# Altium schematic symbol library Schlib_Xilinx.SchLib: 18 symbols (part 4 of 5)
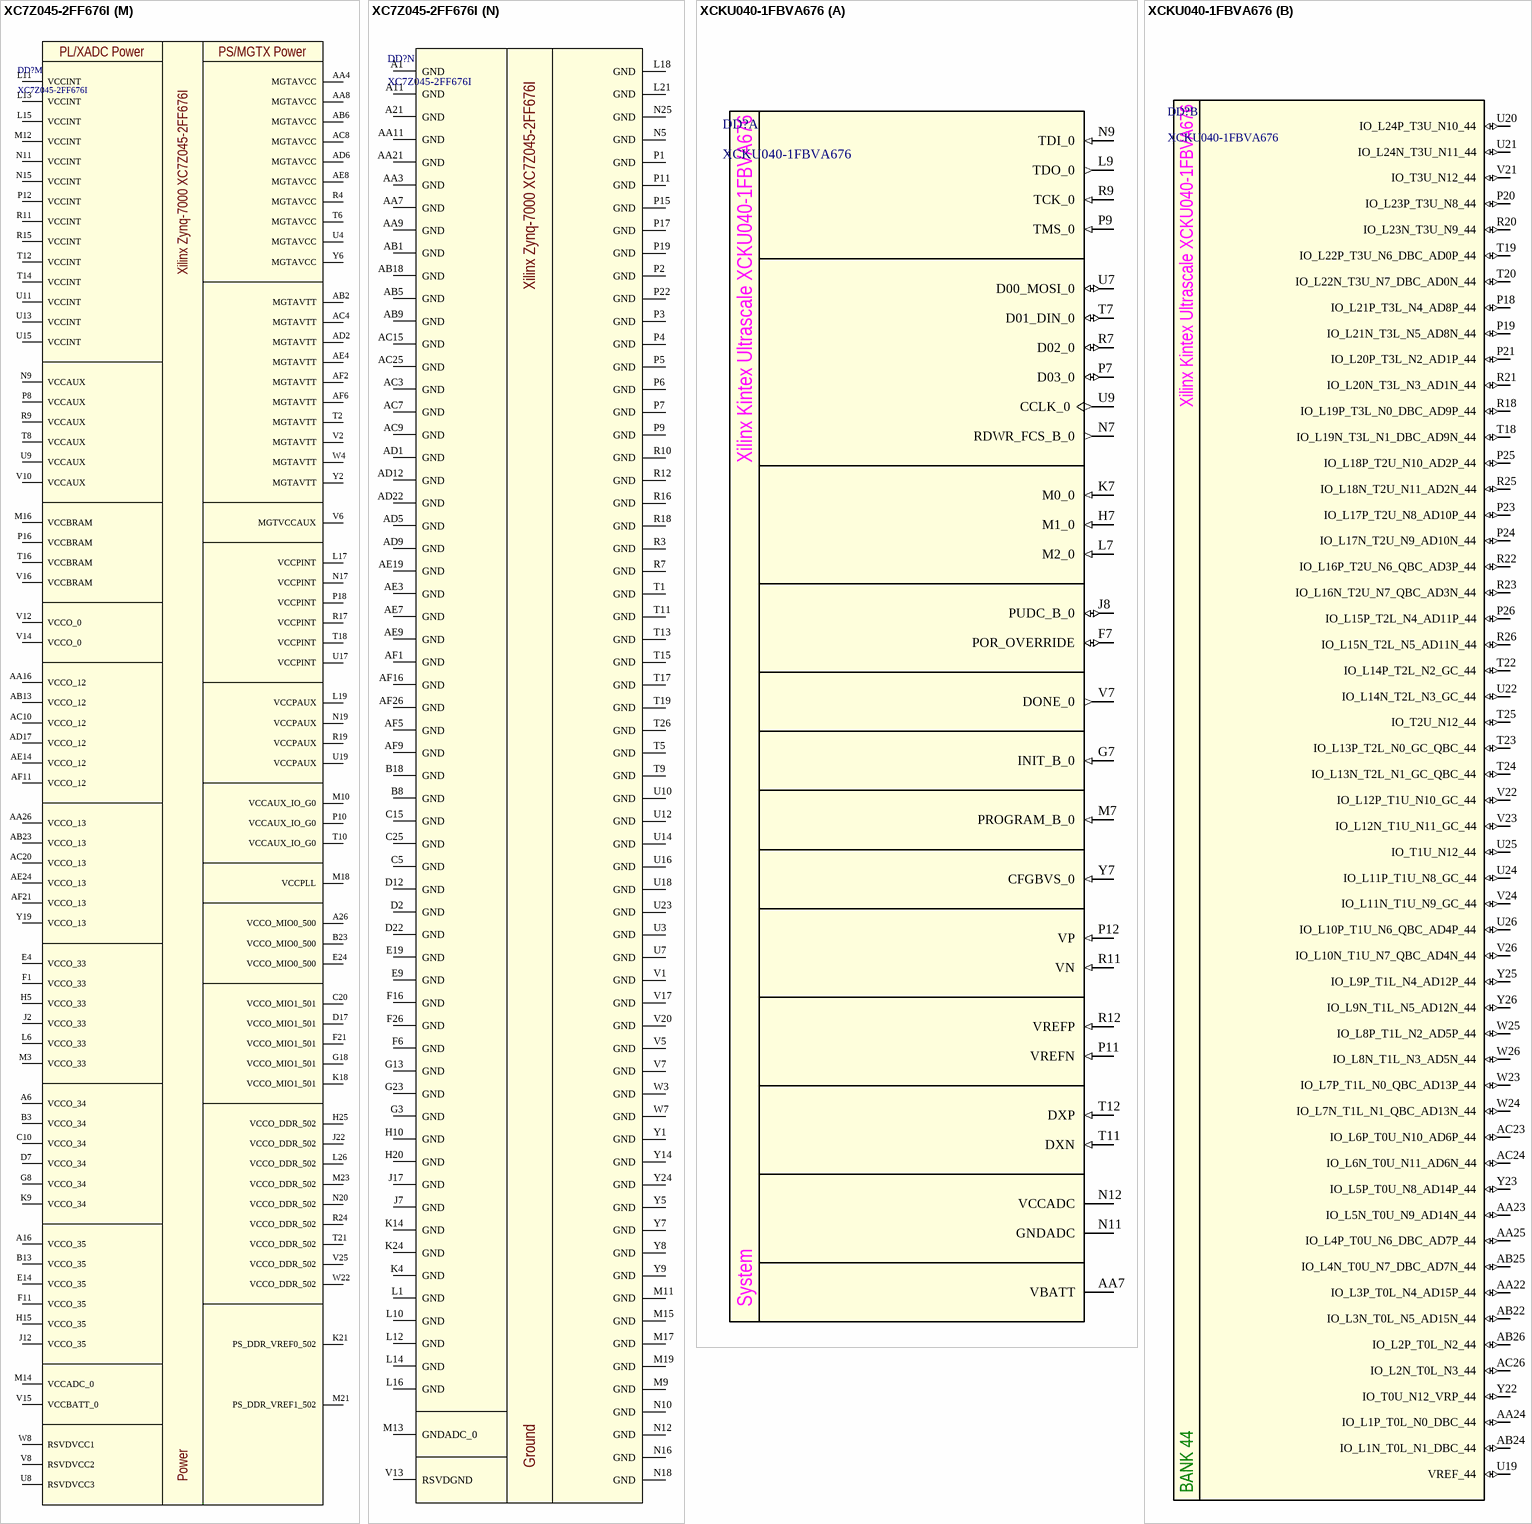
[diagram p60: symbols XC7Z045-2FF676I to XCKU040-1FBVA676]

## XC7Z045-2FF676I
designator DD?
Zynq-7000 Series SoC, Speed Grade 2, Industrial Grade; Manufacturer: Xilinx; Speed Grade: -2; PackageReference: FBG484; Part Number: XC7Z045-2FF676I
footprint FB676 (XC7Z045) (BGA, 676-Leads, Body 27.00x27.00mmx2.54mm, Pitch 1.00mm)
part A pins: N13 VREFN_0 (in), N14 VP_0 (in), P13 VN_0 (in), P14 VREFP_0 (in), R8 INIT_B_0 (in), R13 DXN_0 (in), R14 DXP_0 (in), T7 CFGBVS_0 (in), V9 PROGRAM_B_0 (in), V11 TDI_0 (in), W9 DONE_0 (out), W10 TDO_0 (out), W11 TMS_0 (in), W12 TCK_0 (in)
part B pins: AA10 IO_L3N_T0_DQS_12 (io), AA12 IO_L6N_T0_VREF_12 (io), AA13 IO_L6P_T0_12 (io), AA14 IO_L22N_T3_12 (io), AA15 IO_L22P_T3_12 (io), AA17 IO_L19N_T3_VREF_12 (io), AB10 IO_L4N_T0_12 (io), AB11 IO_L4P_T0_12 (io), AB12 IO_L2P_T0_12 (io), AB14 IO_L14N_T2_SRCC_12 (io), AB15 IO_L14P_T2_SRCC_12 (io), AB16 IO_L20N_T3_12 (io), AB17 IO_L20P_T3_12 (io), AC11 IO_L2N_T0_12 (io), AC12 IO_L11P_T1_SRCC_12 (io), AC13 IO_L12P_T1_MRCC_12 (io), AC14 IO_L13P_T2_MRCC_12 (io), AC16 IO_L21N_T3_DQS_12 (io), AC17 IO_L21P_T3_DQS_12 (io), AD10 IO_L7N_T1_12 (io), AD11 IO_L11N_T1_SRCC_12 (io), AD13 IO_L12N_T1_MRCC_12 (io), AD14 IO_L13N_T2_MRCC_12 (io), AD15 IO_L15N_T2_DQS_12 (io), AD16 IO_L15P_T2_DQS_12 (io), AE10 IO_L7P_T1_12 (io), AE11 IO_L9P_T1_DQS_12 (io), AE12 IO_L8P_T1_12 (io), AE13 IO_L10P_T1_12 (io), AE15 IO_L17N_T2_12 (io), AE16 IO_L17P_T2_12 (io), AE17 IO_L18P_T2_12 (io), AF10 IO_L9N_T1_DQS_12 (io), AF12 IO_L8N_T1_12 (io), AF13 IO_L10N_T1_12 (io), AF14 IO_L16N_T2_12 (io), AF15 IO_L16P_T2_12 (io), AF17 IO_L18N_T2_12 (io), W13 IO_L5P_T0_12 (io), W14 IO_0_12 (io), W15 IO_L24N_T3_12 (io), W16 IO_L24P_T3_12 (io), Y10 IO_L3P_T0_DQS_12 (io), Y11 IO_L1N_T0_12 (io), Y12 IO_L1P_T0_12 (io), Y13 IO_L5N_T0_12 (io), Y15 IO_L23N_T3_12 (io), Y16 IO_L23P_T3_12 (io), Y17 IO_L19P_T3_12 (io)
part C pins: AA18 IO_L24N_T3_13 (io), AA19 IO_L22P_T3_13 (io), AA20 IO_L20P_T3_13 (io), AA22 IO_L10P_T1_13 (io), AA23 IO_L10N_T1_13 (io), AA24 IO_L6P_T0_13 (io), AA25 IO_L1P_T0_13 (io), AB19 IO_L22N_T3_13 (io), AB20 IO_L20N_T3_13 (io), AB21 IO_L9P_T1_DQS_13 (io), AB22 IO_L9N_T1_DQS_13 (io), AB24 IO_L6N_T0_VREF_13 (io), AB25 IO_L1N_T0_13 (io), AB26 IO_L2P_T0_13 (io), AC18 IO_L21P_T3_DQS_13 (io), AC19 IO_L21N_T3_DQS_13 (io), AC21 IO_L14P_T2_SRCC_13 (io), AC22 IO_L14N_T2_SRCC_13 (io), AC23 IO_L12P_T1_MRCC_13 (io), AC24 IO_L12N_T1_MRCC_13 (io), AC26 IO_L2N_T0_13 (io), AD18 IO_L17P_T2_13 (io), AD19 IO_L17N_T2_13 (io), AD20 IO_L13P_T2_MRCC_13 (io), AD21 IO_L13N_T2_MRCC_13 (io), AD23 IO_L11P_T1_SRCC_13 (io), AD24 IO_L11N_T1_SRCC_13 (io), AD25 IO_L4P_T0_13 (io), AD26 IO_L4N_T0_13 (io), AE18 IO_L18P_T2_13 (io), AE20 IO_L16P_T2_13 (io), AE21 IO_L16N_T2_13 (io), AE22 IO_L7P_T1_13 (io), AE23 IO_L8P_T1_13 (io), AE25 IO_L3P_T0_DQS_13 (io), AE26 IO_L3N_T0_DQS_13 (io), AF18 IO_L18N_T2_13 (io), AF19 IO_L15P_T2_DQS_13 (io), AF20 IO_L15N_T2_DQS_13 (io), AF22 IO_L7N_T1_13 (io), AF23 IO_L8N_T1_13 (io), AF24 IO_L5P_T0_13 (io), AF25 IO_L5N_T0_13 (io), V19 IO_0_13 (io), W18 IO_L23P_T3_13 (io), W19 IO_L23N_T3_13 (io), W20 IO_L19P_T3_13 (io), Y18 IO_L24P_T3_13 (io), Y20 IO_L19N_T3_VREF_13 (io)
part D pins: C1 IO_L4N_T0_33 (io), D1 IO_L4P_T0_33 (io), D3 IO_L2N_T0_33 (io), D4 IO_L2P_T0_33 (io), E1 IO_L5N_T0_33 (io), E2 IO_L5P_T0_33 (io), E3 IO_L6N_T0_VREF_33 (io), F2 IO_L3N_T0_DQS_33 (io), F3 IO_L6P_T0_33 (io), F4 IO_L1N_T0_33 (io), G1 IO_L10N_T1_33 (io), G2 IO_L3P_T0_DQS_33 (io), G4 IO_L1P_T0_33 (io), H1 IO_L7N_T1_33 (io), H2 IO_L10P_T1_33 (io), H3 IO_L8N_T1_33 (io), H4 IO_L8P_T1_33 (io), J1 IO_L7P_T1_33 (io), J3 IO_L12N_T1_MRCC_33 (io), J4 IO_L12P_T1_MRCC_33 (io), J5 IO_L20N_T3_33 (io), J6 IO_L22N_T3_33 (io), K1 IO_L9N_T1_DQS_33 (io), K2 IO_L9P_T1_DQS_33 (io), K3 IO_L11N_T1_SRCC_33 (io), K5 IO_L20P_T3_33 (io), K6 IO_L22P_T3_33 (io), K7 IO_L24N_T3_33 (io), K8 IO_L24P_T3_33 (io), L2 IO_L16N_T2_33 (io), L3 IO_L11P_T1_SRCC_33 (io), L4 IO_L14N_T2_SRCC_33 (io), L5 IO_L14P_T2_SRCC_33 (io), L7 IO_L19N_T3_VREF_33 (io), L8 IO_L21N_T3_DQS_33 (io), L9 IO_0_VRN_33 (io), M1 IO_L18N_T2_33 (io), M2 IO_L16P_T2_33 (io), M4 IO_L17N_T2_33 (io), M5 IO_L13N_T2_MRCC_33 (io), M6 IO_L13P_T2_MRCC_33 (io), M7 IO_L19P_T3_33 (io), M8 IO_L21P_T3_DQS_33 (io), N1 IO_L18P_T2_33 (io), N2 IO_L15N_T2_DQS_33 (io), N3 IO_L15P_T2_DQS_33 (io), N4 IO_L17P_T2_33 (io), N6 IO_L23N_T3_33 (io), N7 IO_L23P_T3_33 (io)
part E pins: A2 IO_L24N_T3_34 (io), A3 IO_L22N_T3_34 (io), A4 IO_L22P_T3_34 (io), A5 IO_L21N_T3_DQS_34 (io), A7 IO_L18N_T2_34 (io), A8 IO_L17N_T2_34 (io), A9 IO_L17P_T2_34 (io), A10 IO_L16N_T2_34 (io), B1 IO_L23N_T3_34 (io), B2 IO_L24P_T3_34 (io), B4 IO_L20N_T3_34 (io), B5 IO_L20P_T3_34 (io), B6 IO_L21P_T3_DQS_34 (io), B7 IO_L18P_T2_34 (io), B9 IO_L15N_T2_DQS_34 (io), B10 IO_L16P_T2_34 (io), C2 IO_L23P_T3_34 (io), C3 IO_L19N_T3_VREF_34 (io), C4 IO_L19P_T3_34 (io), C6 IO_L14N_T2_SRCC_34 (io), C7 IO_L13N_T2_MRCC_34 (io), C8 IO_L13P_T2_MRCC_34 (io), C9 IO_L15P_T2_DQS_34 (io), D5 IO_L10N_T1_34 (io), D6 IO_L14P_T2_SRCC_34 (io), D8 IO_L8N_T1_34 (io), D9 IO_L8P_T1_34 (io), E5 IO_L7N_T1_34 (io), E6 IO_L10P_T1_34 (io), E7 IO_L11N_T1_SRCC_34 (io), E8 IO_L9N_T1_DQS_34 (io), F5 IO_L7P_T1_34 (io), F7 IO_L12N_T1_MRCC_34 (io), F8 IO_L11P_T1_SRCC_34 (io), F9 IO_L9P_T1_DQS_34 (io), G5 IO_L2N_T0_34 (io), G6 IO_L2P_T0_34 (io), G7 IO_L12P_T1_MRCC_34 (io), G9 IO_L3N_T0_DQS_34 (io), H6 IO_L4N_T0_34 (io), H7 IO_L4P_T0_34 (io), H8 IO_L6N_T0_VREF_34 (io), H9 IO_L3P_T0_DQS_PUDC_B_34 (io), H11 IO_L1N_T0_34 (io), J8 IO_L6P_T0_34 (io), J9 IO_L5N_T0_34 (io), J10 IO_L5P_T0_34 (io), J11 IO_L1P_T0_34 (io), K11 IO_0_VRN_34 (io)
part F pins: A12 IO_L24N_T3_AD15N_35 (io), A13 IO_L24P_T3_AD15P_35 (io), A14 IO_L21N_T3_DQS_AD14N_35 (io), A15 IO_L21P_T3_DQS_AD14P_35 (io), A17 IO_L18N_T2_AD13N_35 (io), B11 IO_L23N_T3_35 (io), B12 IO_L22N_T3_AD7N_35 (io), B14 IO_L20N_T3_AD6N_35 (io), B15 IO_L17N_T2_AD5N_35 (io), B16 IO_L17P_T2_AD5P_35 (io), B17 IO_L18P_T2_AD13P_35 (io), C11 IO_L23P_T3_35 (io), C12 IO_L22P_T3_AD7P_35 (io), C13 IO_L19N_T3_VREF_35 (io), C14 IO_L20P_T3_AD6P_35 (io), C16 IO_L15N_T2_DQS_AD12N_35 (io), C17 IO_L15P_T2_DQS_AD12P_35 (io), D10 IO_L2N_T0_AD8N_35 (io), D11 IO_L4N_T0_35 (io), D13 IO_L19P_T3_35 (io), D14 IO_L13N_T2_MRCC_35 (io), D15 IO_L13P_T2_MRCC_35 (io), D16 IO_L16N_T2_35 (io), E10 IO_L2P_T0_AD8P_35 (io), E11 IO_L4P_T0_35 (io), E12 IO_L1N_T0_AD0N_35 (io), E13 IO_L6N_T0_VREF_35 (io), E15 IO_L14N_T2_AD4N_SRCC_35 (io), E16 IO_L16P_T2_35 (io), F10 IO_L3N_T0_DQS_AD1N_35 (io), F12 IO_L1P_T0_AD0P_35 (io), F13 IO_L6P_T0_35 (io), F14 IO_L11N_T1_SRCC_35 (io), F15 IO_L14P_T2_AD4P_SRCC_35 (io), G10 IO_L3P_T0_DQS_AD1P_35 (io), G11 IO_L5N_T0_AD9N_35 (io), G12 IO_L5P_T0_AD9P_35 (io), G14 IO_L11P_T1_SRCC_35 (io), G15 IO_L10N_T1_AD11N_35 (io), G16 IO_L10P_T1_AD11P_35 (io), H12 IO_L7N_T1_AD2N_35 (io), H13 IO_L7P_T1_AD2P_35 (io), H14 IO_L12N_T1_MRCC_35 (io), H16 IO_0_VRN_35 (io), J13 IO_L8N_T1_AD10N_35 (io), J14 IO_L12P_T1_MRCC_35 (io), J15 IO_L9N_T1_DQS_AD3N_35 (io), K13 IO_L8P_T1_AD10P_35 (io), K15 IO_L9P_T1_DQS_AD3P_35 (io)
part G pins: AA5 MGTREFCLK1N_111 (in), AA6 MGTREFCLK1P_111 (in), AC1 MGTXTXN3_111 (out), AC2 MGTXTXP3_111 (out), AC5 MGTXRXN2_111 (in), AC6 MGTXRXP2_111 (in), AD3 MGTXRXN3_111 (in), AD4 MGTXRXP3_111 (in), AD7 MGTXRXN0_111 (in), AD8 MGTXRXP0_111 (in), AE1 MGTXTXN2_111 (out), AE2 MGTXTXP2_111 (out), AE5 MGTXRXN1_111 (in), AE6 MGTXRXP1_111 (in), AF3 MGTXTXN1_111 (out), AF4 MGTXTXP1_111 (out), AF7 MGTXTXN0_111 (out), AF8 MGTXTXP0_111 (out), W5 MGTREFCLK0N_111 (in), W6 MGTREFCLK0P_111 (in)
part H pins: AA1 MGTXTXN0_112 (out), AA2 MGTXTXP0_112 (out), AB3 MGTXRXN0_112 (in), AB4 MGTXRXP0_112 (in), AB7 MGTAVTTRCAL_112, AB8 MGTRREF_112 (in), R1 MGTXTXN3_112 (out), R2 MGTXTXP3_112 (out), R5 MGTREFCLK0N_112 (in), R6 MGTREFCLK0P_112 (in), T3 MGTXRXN3_112 (in), T4 MGTXRXP3_112 (in), U1 MGTXTXN2_112 (out), U2 MGTXTXP2_112 (out), U5 MGTREFCLK1N_112 (in), U6 MGTREFCLK1P_112 (in), V3 MGTXRXN2_112 (in), V4 MGTXRXP2_112 (in), W1 MGTXTXN1_112 (out), W2 MGTXTXP1_112 (out), Y3 MGTXRXN1_112 (in), Y4 MGTXRXP1_112 (in)
part I pins: A23 PS_MIO12_500 (io), A24 PS_MIO8_500 (io), A25 PS_MIO10_500 (io), B24 PS_CLK_500 (io), B25 PS_MIO13_500 (io), B26 PS_MIO11_500 (io), C23 PS_POR_B_500 (io), C24 PS_MIO15_500 (io), C26 PS_MIO5_500 (io), D23 PS_MIO14_500 (io), D24 PS_MIO9_500 (io), D25 PS_MIO3_500 (io), D26 PS_MIO1_500 (io), E23 PS_MIO7_500 (io), E25 PS_MIO2_500 (io), E26 PS_MIO0_500 (io), F23 PS_MIO6_500 (io), F24 PS_MIO4_500 (io)
part J pins: A18 PS_MIO49_501 (io), A19 PS_MIO53_501 (io), A20 PS_MIO52_501 (io), A22 PS_SRST_B_501 (io), B19 PS_MIO47_501 (io), B20 PS_MIO51_501 (io), B21 PS_MIO48_501 (io), B22 PS_MIO50_501 (io), C18 PS_MIO45_501 (io), C19 PS_MIO41_501 (io), C21 PS_MIO39_501 (io), C22 PS_MIO40_501 (io), D18 PS_MIO43_501 (io), D19 PS_MIO35_501 (io), D20 PS_MIO37_501 (io), D21 PS_MIO38_501 (io), E17 PS_MIO46_501 (io), E18 PS_MIO44_501 (io), E20 PS_MIO29_501 (io), E21 PS_MIO31_501 (io), E22 PS_MIO33_501 (io), F17 PS_MIO42_501 (io), F18 PS_MIO27_501 (io), F19 PS_MIO25_501 (io), F20 PS_MIO23_501 (io), F22 PS_MIO21_501 (io), G17 PS_MIO17_501 (io), G19 PS_MIO19_501 (io), G20 PS_MIO18_501 (io), G21 PS_MIO16_501 (io), G22 PS_MIO22_501 (io), H17 PS_MIO26_501 (io), H18 PS_MIO_VREF_501 (io), H19 PS_MIO20_501 (io), J16 PS_MIO34_501 (io), J18 PS_MIO28_501 (io), J19 PS_MIO24_501 (io), K16 PS_MIO36_501 (io), K17 PS_MIO32_501 (io), K19 PS_MIO30_501 (io)
part K pins: F25 PS_DDR_DQ1_502 (io), G25 PS_DDR_DQS_N0_502 (io), G26 PS_DDR_DQ3_502 (io), H23 PS_DDR_DQ5_502 (io), H24 PS_DDR_DQS_P0_502 (io), H26 PS_DDR_DQ4_502 (io), J23 PS_DDR_DQ7_502 (io), J24 PS_DDR_DQ6_502 (io), J25 PS_DDR_DQ2_502 (io), J26 PS_DDR_DQ0_502 (io), K23 PS_DDR_DQ11_502 (io), K26 PS_DDR_DQ8_502 (io), L23 PS_DDR_DQ9_502 (io), L24 PS_DDR_DQS_P1_502 (io), L25 PS_DDR_DQS_N1_502 (io), M24 PS_DDR_DQ14_502 (io), M25 PS_DDR_DQ12_502 (io), M26 PS_DDR_DQ10_502 (io), N23 PS_DDR_DQ15_502 (io), N24 PS_DDR_DQ13_502 (io), N26 PS_DDR_DQ18_502 (io), P23 PS_DDR_DQ19_502 (io), P24 PS_DDR_DQ17_502 (io), P25 PS_DDR_DQS_P2_502 (io), R23 PS_DDR_DQ23_502 (io), R25 PS_DDR_DQS_N2_502 (io), R26 PS_DDR_DQ16_502 (io), T23 PS_DDR_DQ22_502 (io), T24 PS_DDR_DQ20_502 (io), T25 PS_DDR_DQ21_502 (io), U24 PS_DDR_DQ26_502 (io), U25 PS_DDR_DQ27_502 (io), U26 PS_DDR_DQ25_502 (io), V24 PS_DDR_DQ24_502 (io), W23 PS_DDR_DQ31_502 (io), W24 PS_DDR_DQS_P3_502 (io), W25 PS_DDR_DQS_N3_502 (io), W26 PS_DDR_DQ28_502 (io), Y25 PS_DDR_DQ29_502 (io), Y26 PS_DDR_DQ30_502 (io)
part L pins: G24 PS_DDR_DM0_502 (io), H21 PS_DDR_A11_502 (io), H22 PS_DDR_DRST_B_502 (io), J20 PS_DDR_A13_502 (io), J21 PS_DDR_A7_502 (io), K20 PS_DDR_A1_502 (io), K22 PS_DDR_A0_502 (io), K25 PS_DDR_DM1_502 (io), L20 PS_DDR_A6_502 (io), L22 PS_DDR_A3_502 (io), M20 PS_DDR_A4_502 (io), M22 PS_DDR_A10_502 (io), N21 PS_DDR_A2_502 (io), N22 PS_DDR_A5_502 (io), P20 PS_DDR_A12_502 (io), P21 PS_DDR_CKN_502 (io), P26 PS_DDR_DM2_502 (io), R20 PS_DDR_A14_502 (io), R21 PS_DDR_CKP_502 (io), R22 PS_DDR_BA2_502 (io), T20 PS_DDR_A8_502 (io), T22 PS_DDR_BA1_502 (io), U20 PS_DDR_A9_502 (io), U21 PS_DDR_CKE_502 (io), U22 PS_DDR_BA0_502 (io), V21 PS_DDR_VRN_502 (io), V22 PS_DDR_WE_B_502 (io), V23 PS_DDR_RAS_B_502 (io), V26 PS_DDR_DM3_502 (io), W21 PS_DDR_VRP_502 (io), Y21 PS_DDR_CS_B_502 (io), Y22 PS_DDR_ODT_502 (io), Y23 PS_DDR_CAS_B_502 (io)
part M pins: A6 VCCO_34 (power), A16 VCCO_35 (power), A26 VCCO_MIO0_500 (power), AA4 MGTAVCC (power), AA8 MGTAVCC (power), AA16 VCCO_12 (power), AA26 VCCO_13 (power), AB2 MGTAVTT (power), AB6 MGTAVCC (power), AB13 VCCO_12 (power), AB23 VCCO_13 (power), AC4 MGTAVTT (power), AC8 MGTAVCC (power), AC10 VCCO_12 (power), AC20 VCCO_13 (power), AD2 MGTAVTT (power), AD6 MGTAVCC (power), AD17 VCCO_12 (power), AE4 MGTAVTT (power), AE8 MGTAVCC (power), AE14 VCCO_12 (power), AE24 VCCO_13 (power), AF2 MGTAVTT (power), AF6 MGTAVTT (power), AF11 VCCO_12 (power), AF21 VCCO_13 (power), B3 VCCO_34 (power), B13 VCCO_35 (power), B23 VCCO_MIO0_500 (power), C10 VCCO_34 (power), C20 VCCO_MIO1_501 (power), D7 VCCO_34 (power), D17 VCCO_MIO1_501 (power), E4 VCCO_33 (power), E14 VCCO_35 (power), E24 VCCO_MIO0_500 (power), F1 VCCO_33 (power), F11 VCCO_35 (power), F21 VCCO_MIO1_501 (power), G8 VCCO_34 (power), G18 VCCO_MIO1_501 (power), H5 VCCO_33 (power), H15 VCCO_35 (power), H25 VCCO_DDR_502 (power), J2 VCCO_33 (power), J12 VCCO_35 (power), J22 VCCO_DDR_502 (power), K9 VCCO_34 (power), K18 VCCO_MIO1_501 (power), K21 PS_DDR_VREF0_502 (power), L6 VCCO_33 (power), L11 VCCINT (power), L13 VCCINT (power), L15 VCCINT (power), L17 VCCPINT (power), L19 VCCPAUX (power), L26 VCCO_DDR_502 (power), M3 VCCO_33 (power), M10 VCCAUX_IO_G0 (power), M12 VCCINT (power), M14 VCCADC_0 (power), M16 VCCBRAM (power), M18 VCCPLL (power), M21 PS_DDR_VREF1_502 (power), M23 VCCO_DDR_502 (power), N9 VCCAUX (power), N11 VCCINT (power), N15 VCCINT (power), N17 VCCPINT (power), N19 VCCPAUX (power), N20 VCCO_DDR_502 (power), P8 VCCAUX (power), P10 VCCAUX_IO_G0 (power), P12 VCCINT (power), P16 VCCBRAM (power), P18 VCCPINT (power), R4 MGTAVCC (power), R9 VCCAUX (power), R11 VCCINT (power), R15 VCCINT (power), R17 VCCPINT (power), R19 VCCPAUX (power), R24 VCCO_DDR_502 (power), T2 MGTAVTT (power), T6 MGTAVCC (power), T8 VCCAUX (power), T10 VCCAUX_IO_G0 (power), T12 VCCINT (power), T14 VCCINT (power), T16 VCCBRAM (power), T18 VCCPINT (power), T21 VCCO_DDR_502 (power), U4 MGTAVCC (power), U8 RSVDVCC3 (power), U9 VCCAUX (power), U11 VCCINT (power), U13 VCCINT (power), U15 VCCINT (power), U17 VCCPINT (power), U19 VCCPAUX (power), V2 MGTAVTT (power), V6 MGTVCCAUX (power), V8 RSVDVCC2 (power), V10 VCCAUX (power), V12 VCCO_0 (power), V14 VCCO_0 (power), V15 VCCBATT_0 (power), V16 VCCBRAM (power), V25 VCCO_DDR_502 (power), W4 MGTAVTT (power), W8 RSVDVCC1 (power), W22 VCCO_DDR_502 (power), Y2 MGTAVTT (power), Y6 MGTAVCC (power), Y19 VCCO_13 (power)
part N pins: A1 GND (power), A11 GND (power), A21 GND (power), AA3 GND (power), AA7 GND (power), AA9 GND (power), AA11 GND (power), AA21 GND (power), AB1 GND (power), AB5 GND (power), AB9 GND (power), AB18 GND (power), AC3 GND (power), AC7 GND (power), AC9 GND (power), AC15 GND (power), AC25 GND (power), AD1 GND (power), AD5 GND (power), AD9 GND (power), AD12 GND (power), AD22 GND (power), AE3 GND (power), AE7 GND (power), AE9 GND (power), AE19 GND (power), AF1 GND (power), AF5 GND (power), AF9 GND (power), AF16 GND (power), AF26 GND (power), B8 GND (power), B18 GND (power), C5 GND (power), C15 GND (power), C25 GND (power), D2 GND (power), D12 GND (power), D22 GND (power), E9 GND (power), E19 GND (power), F6 GND (power), F16 GND (power), F26 GND (power), G3 GND (power), G13 GND (power), G23 GND (power), H10 GND (power), H20 GND (power), J7 GND (power), J17 GND (power), K4 GND (power), K14 GND (power), K24 GND (power), L1 GND (power), L10 GND (power), L12 GND (power), L14 GND (power), L16 GND (power), L18 GND (power), L21 GND (power), M9 GND (power), M11 GND (power), M13 GNDADC_0 (power), M15 GND (power), M17 GND (power), M19 GND (power), N5 GND (power), N10 GND (power), N12 GND (power), N16 GND (power), N18 GND (power), N25 GND (power), P1 GND (power), P2 GND (power), P3 GND (power), P4 GND (power), P5 GND (power), P6 GND (power), P7 GND (power), P9 GND (power), P11 GND (power), P15 GND (power), P17 GND (power), P19 GND (power), P22 GND (power), R3 GND (power), R7 GND (power), R10 GND (power), R12 GND (power), R16 GND (power), R18 GND (power), T1 GND (power), T5 GND (power), T9 GND (power), T11 GND (power), T13 GND (power), T15 GND (power), T17 GND (power), T19 GND (power), T26 GND (power), U3 GND (power), U7 GND (power), U10 GND (power), U12 GND (power), U14 GND (power), U16 GND (power), U18 GND (power), U23 GND (power), V1 GND (power), V5 GND (power), V7 GND (power), V13 RSVDGND (power), V17 GND (power), V20 GND (power), W3 GND (power), W7 GND (power), Y1 GND (power), Y5 GND (power), Y7 GND (power), Y8 GND (power), Y9 GND (power), Y14 GND (power), Y24 GND (power)
part A text: Xilinx Zynq-7000 XC7Z045-2FF676I; BANK 0
part B text: Xilinx Zynq-7000 XC7Z045-2FF676I; BANK 12
part C text: Xilinx Zynq-7000 XC7Z045-2FF676I; BANK 13
part D text: Xilinx Zynq-7000 XC7Z045-2FF676I; BANK 33
part E text: Xilinx Zynq-7000 XC7Z045-2FF676I; BANK 34
part F text: Xilinx Zynq-7000 XC7Z045-2FF676I; BANK 35
part G text: Xilinx Zynq-7000 XC7Z045-2FF676I; BANK 111
part H text: Xilinx Zynq-7000 XC7Z045-2FF676I; BANK 112
part I text: Xilinx Zynq-7000 XC7Z045-2FF676I; BANK 500
part J text: Xilinx Zynq-7000 XC7Z045-2FF676I; BANK 501
part K text: Xilinx Zynq-7000 XC7Z045-2FF676I; BANK 502
part L text: Xilinx Zynq-7000 XC7Z045-2FF676I; BANK 502
part M text: PL/XADC Power; PS/MGTX Power; Xilinx Zynq-7000 XC7Z045-2FF676I; Power
part N text: Xilinx Zynq-7000 XC7Z045-2FF676I; Ground

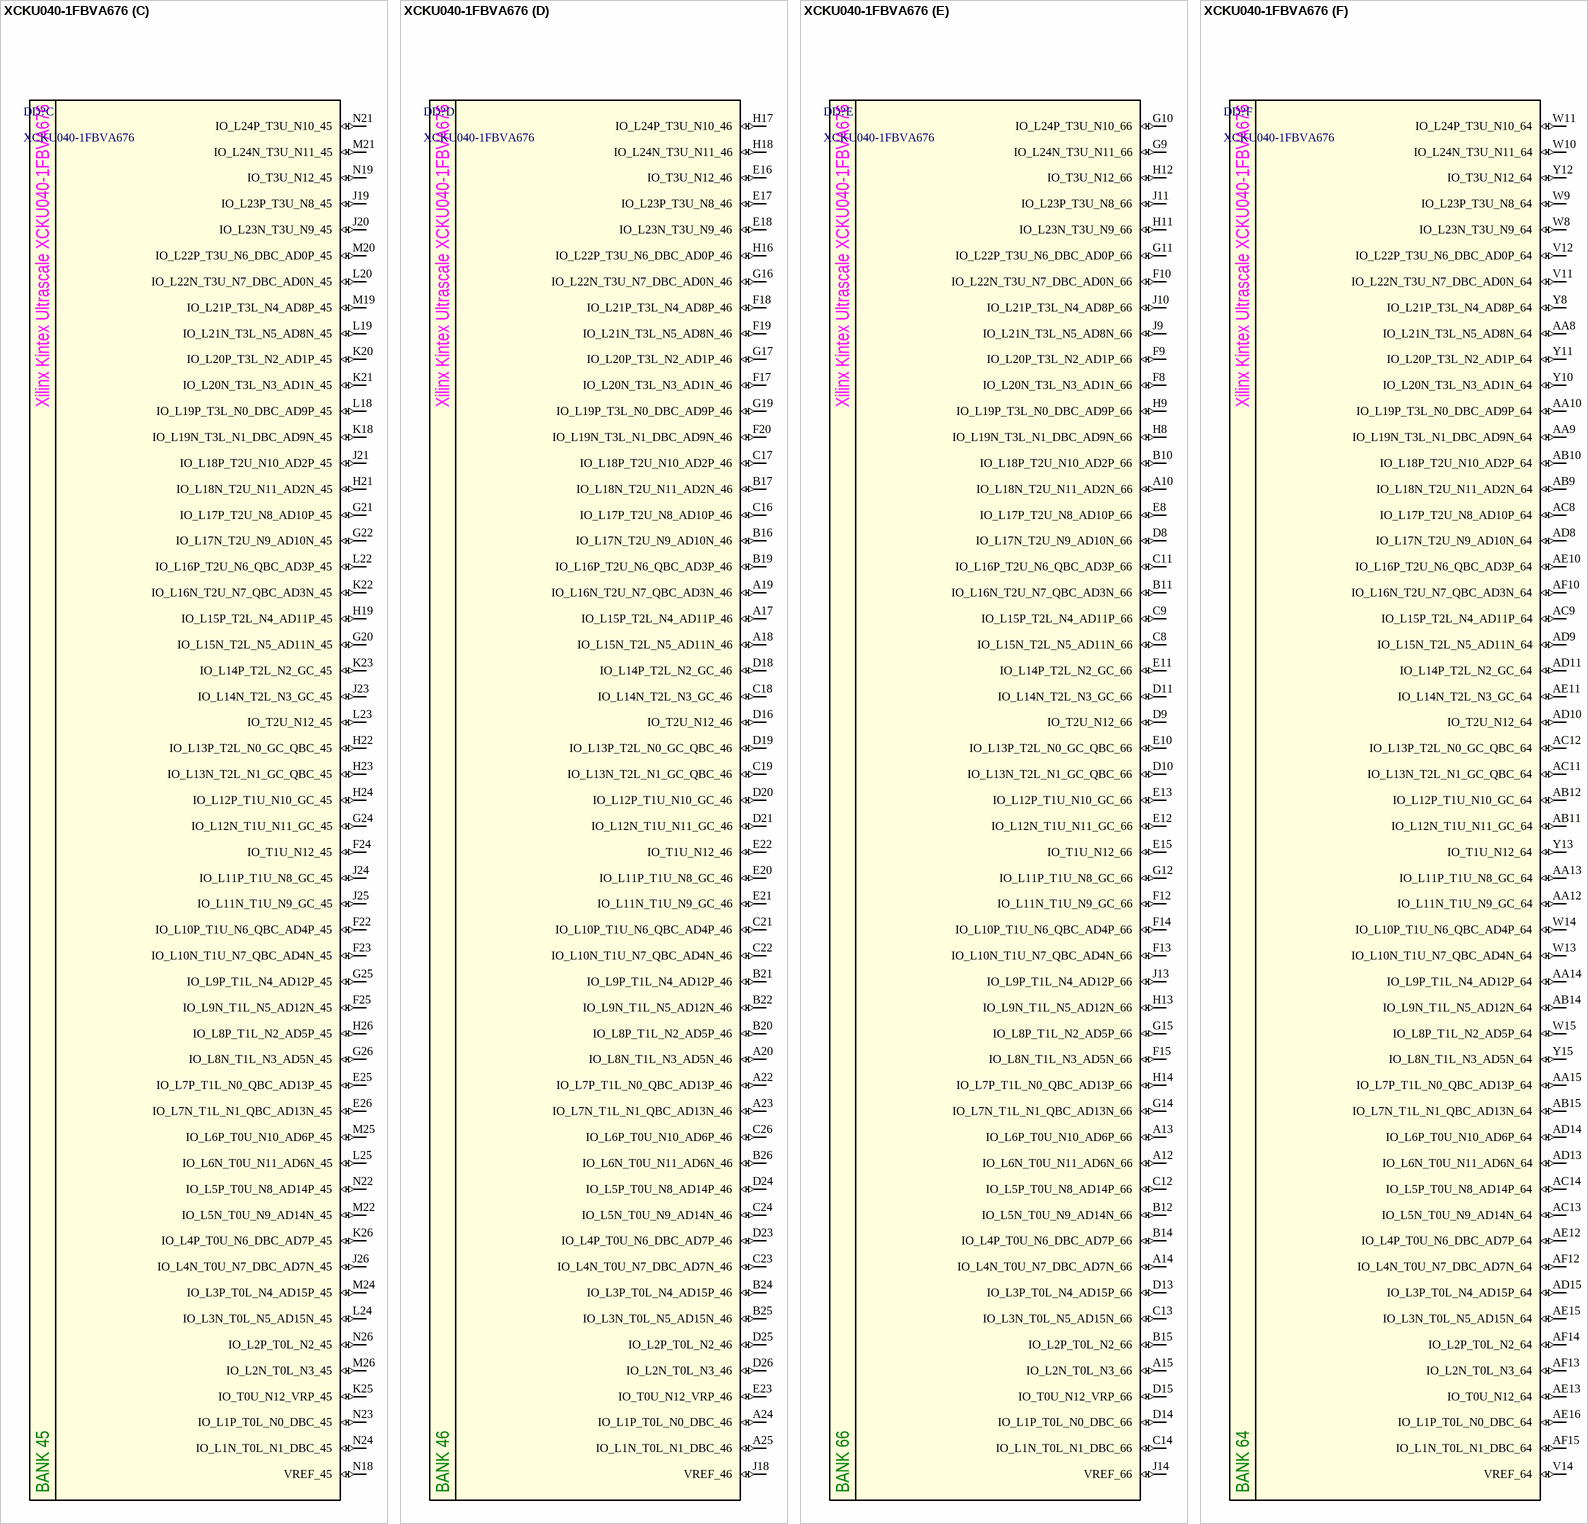
[diagram p47: symbol XCKU040-1FBVA676]

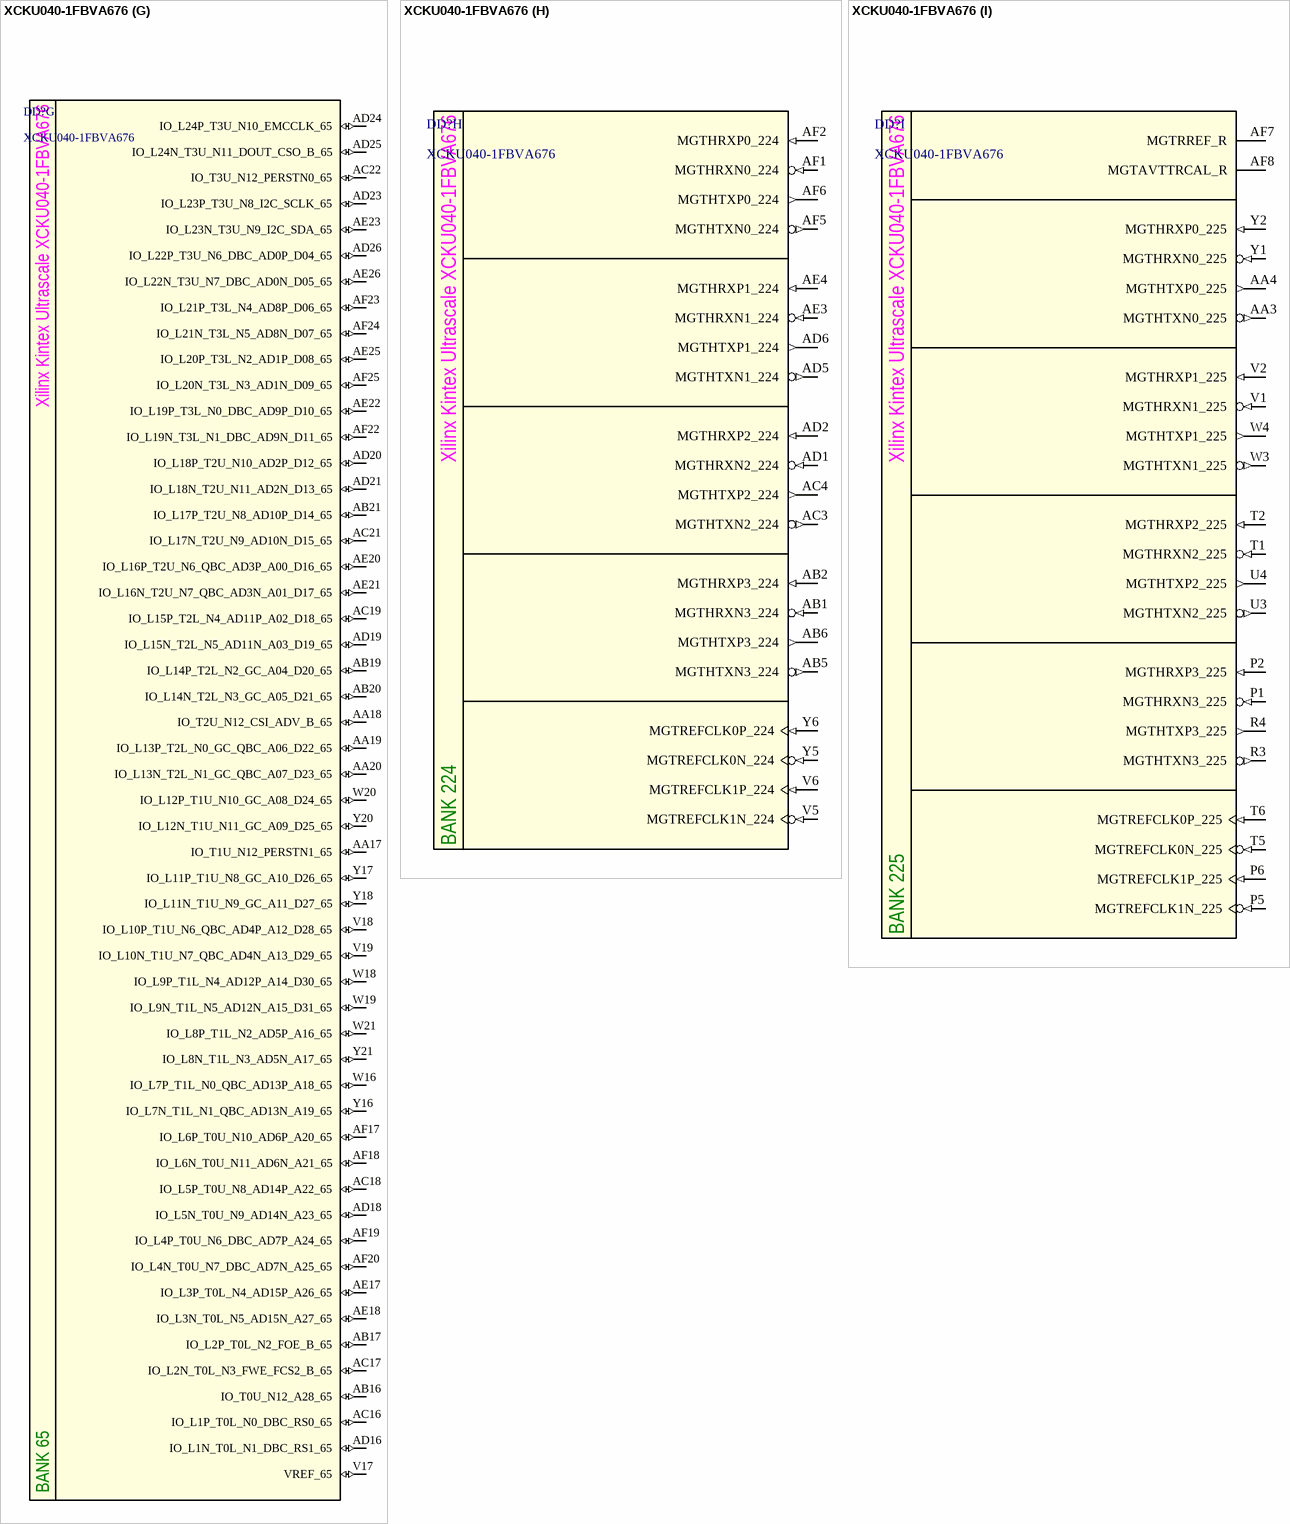
[diagram p48: symbol XCKU040-1FBVA676]

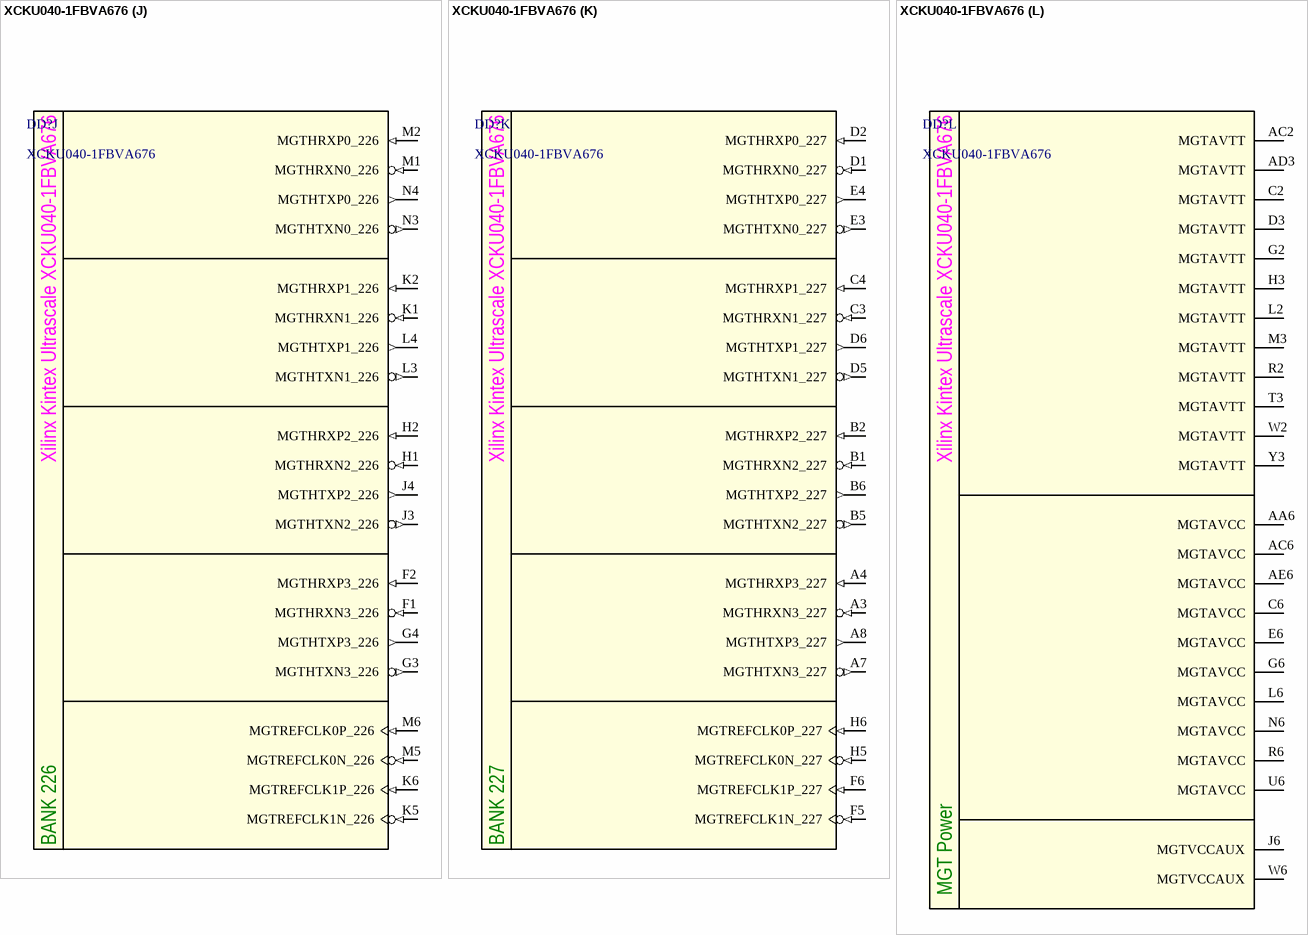
[diagram p49: symbol XCKU040-1FBVA676]

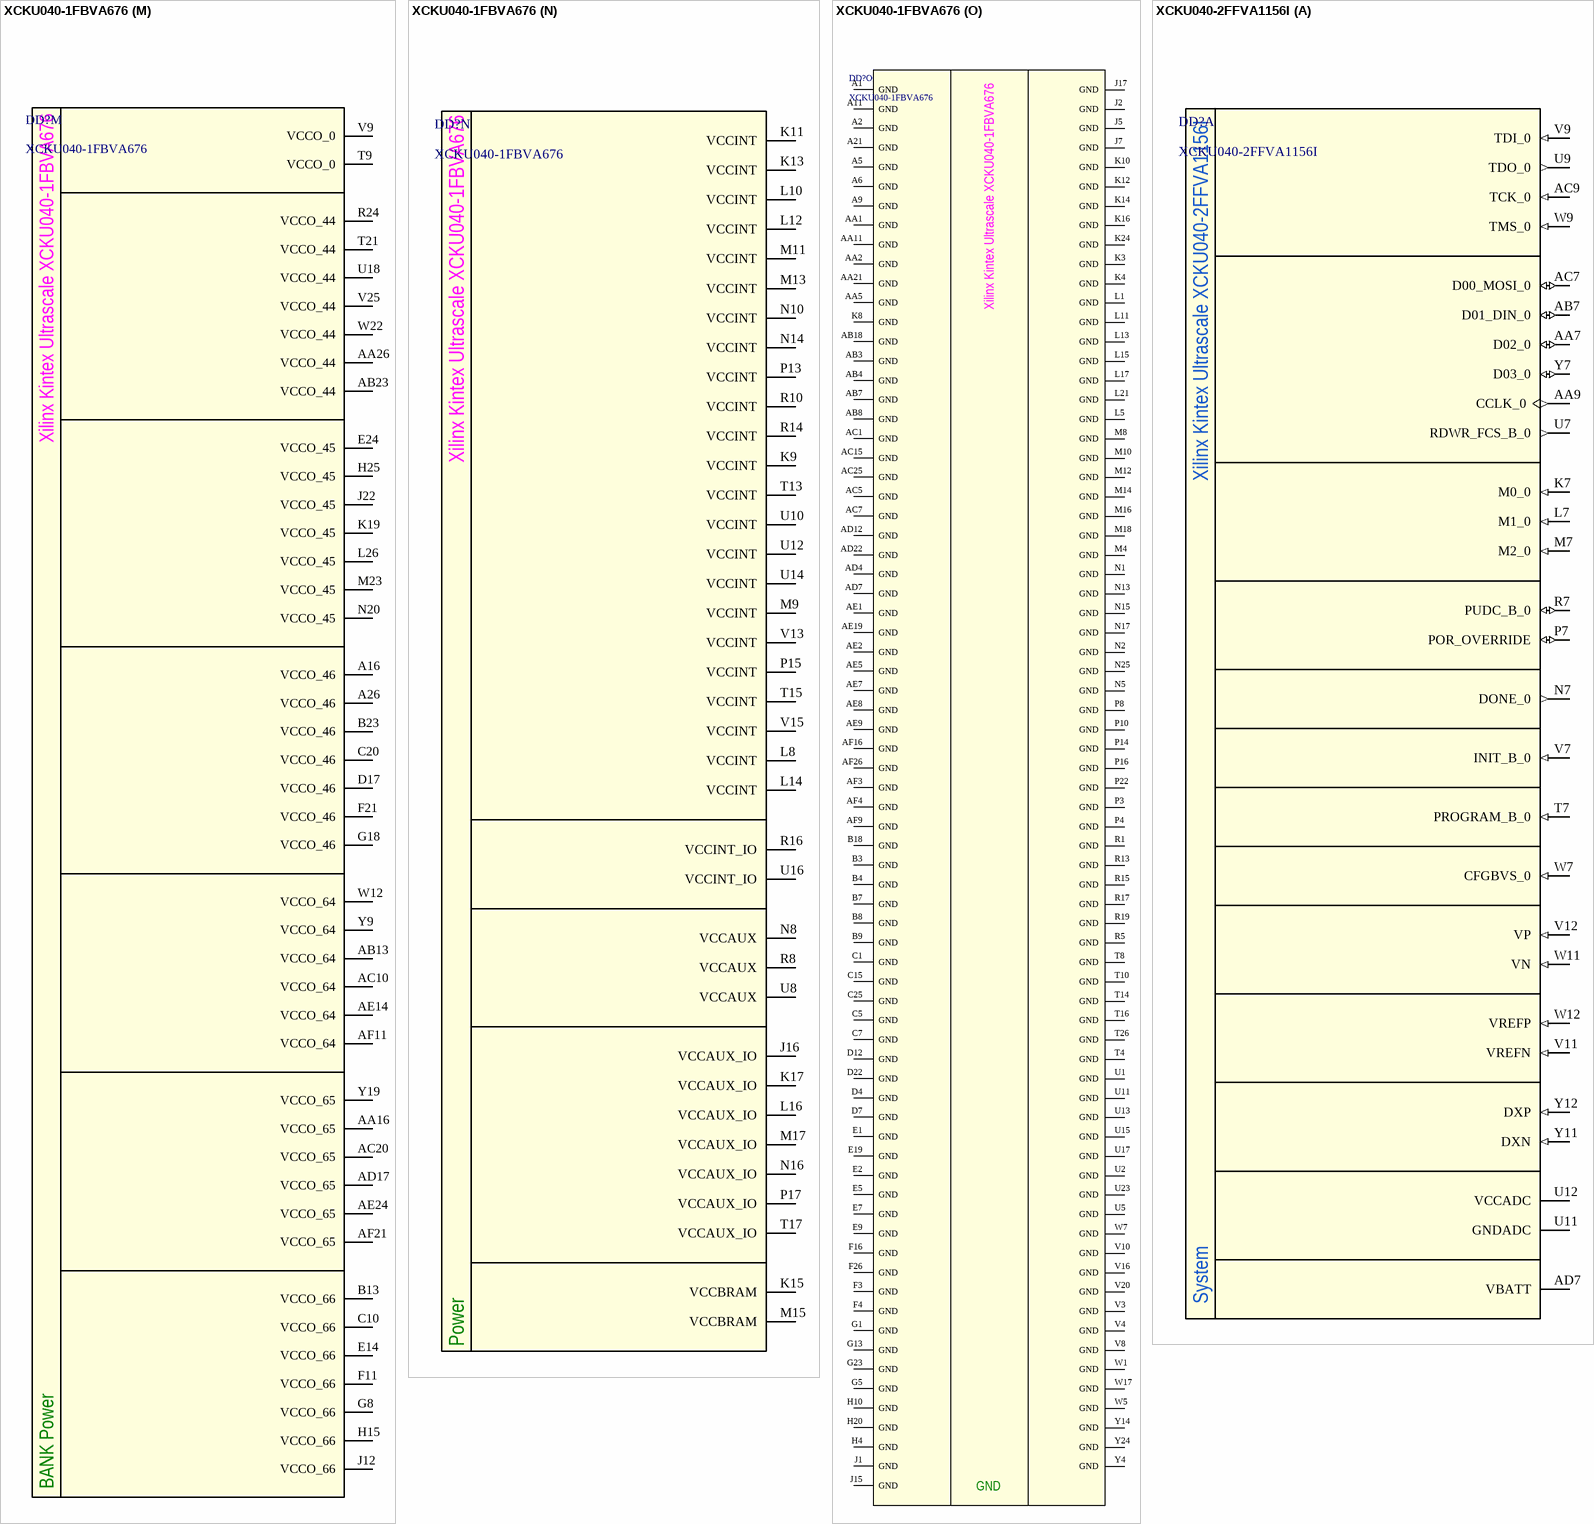
[diagram p50: symbols XCKU040-1FBVA676 to XCKU040-2FFVA1156I]

## XCKU040-1FBVA676
designator DD?
Kintex Ultrascale FPGA, 328 User I/Os, 676-Ball BGA, Speed Grade 1, Industrial Grade, Pb-Free; Manufacturer: Xilinx; Part Number: XCKU040-1FBVA676; ComponentLink1Description: Datasheet; ComponentLink1URL: https://www.xilinx.com/content/dam/xilinx/support/documents/data_sheets/ds890-ultrascale-overview.pdf; ComponentLink2Description: Package Specification; ComponentLink2URL: https://docs.xilinx.com/v/u/en-US/ug575-ultrascale-pkg-pinout
footprint FBVA676 (XCKU040) (BGA, 676-Leads, Body 27.00x27.00mmx2.54mm, Pitch 1.00mm)
part A pins: AA7 VBATT (power), F7 POR_OVERRIDE (io), G7 INIT_B_0 (in), H7 M1_0 (in), J8 PUDC_B_0 (io), K7 M0_0 (in), L7 M2_0 (in), L9 TDO_0 (out), M7 PROGRAM_B_0 (in), N7 RDWR_FCS_B_0 (out), N9 TDI_0 (in), N11 GNDADC (power), N12 VCCADC (power), P7 D03_0 (io), P9 TMS_0 (in), P11 VREFN (in), P12 VP (in), R7 D02_0 (io), R9 TCK_0 (in), R11 VN (in), R12 VREFP (in), T7 D01_DIN_0 (io), T11 DXN (in), T12 DXP (in), U7 D00_MOSI_0 (io), U9 CCLK_0 (out), V7 DONE_0 (out), Y7 CFGBVS_0 (in)
part B pins: AA22 IO_L3P_T0L_N4_AD15P_44 (io), AA23 IO_L5N_T0U_N9_AD14N_44 (io), AA24 IO_L1P_T0L_N0_DBC_44 (io), AA25 IO_L4P_T0U_N6_DBC_AD7P_44 (io), AB22 IO_L3N_T0L_N5_AD15N_44 (io), AB24 IO_L1N_T0L_N1_DBC_44 (io), AB25 IO_L4N_T0U_N7_DBC_AD7N_44 (io), AB26 IO_L2P_T0L_N2_44 (io), AC23 IO_L6P_T0U_N10_AD6P_44 (io), AC24 IO_L6N_T0U_N11_AD6N_44 (io), AC26 IO_L2N_T0L_N3_44 (io), P18 IO_L21P_T3L_N4_AD8P_44 (io), P19 IO_L21N_T3L_N5_AD8N_44 (io), P20 IO_L23P_T3U_N8_44 (io), P21 IO_L20P_T3L_N2_AD1P_44 (io), P23 IO_L17P_T2U_N8_AD10P_44 (io), P24 IO_L17N_T2U_N9_AD10N_44 (io), P25 IO_L18P_T2U_N10_AD2P_44 (io), P26 IO_L15P_T2L_N4_AD11P_44 (io), R18 IO_L19P_T3L_N0_DBC_AD9P_44 (io), R20 IO_L23N_T3U_N9_44 (io), R21 IO_L20N_T3L_N3_AD1N_44 (io), R22 IO_L16P_T2U_N6_QBC_AD3P_44 (io), R23 IO_L16N_T2U_N7_QBC_AD3N_44 (io), R25 IO_L18N_T2U_N11_AD2N_44 (io), R26 IO_L15N_T2L_N5_AD11N_44 (io), T18 IO_L19N_T3L_N1_DBC_AD9N_44 (io), T19 IO_L22P_T3U_N6_DBC_AD0P_44 (io), T20 IO_L22N_T3U_N7_DBC_AD0N_44 (io), T22 IO_L14P_T2L_N2_GC_44 (io), T23 IO_L13P_T2L_N0_GC_QBC_44 (io), T24 IO_L13N_T2L_N1_GC_QBC_44 (io), T25 IO_T2U_N12_44 (io), U19 VREF_44 (io), U20 IO_L24P_T3U_N10_44 (io), U21 IO_L24N_T3U_N11_44 (io), U22 IO_L14N_T2L_N3_GC_44 (io), U24 IO_L11P_T1U_N8_GC_44 (io), U25 IO_T1U_N12_44 (io), U26 IO_L10P_T1U_N6_QBC_AD4P_44 (io), V21 IO_T3U_N12_44 (io), V22 IO_L12P_T1U_N10_GC_44 (io), V23 IO_L12N_T1U_N11_GC_44 (io), V24 IO_L11N_T1U_N9_GC_44 (io), V26 IO_L10N_T1U_N7_QBC_AD4N_44 (io), W23 IO_L7P_T1L_N0_QBC_AD13P_44 (io), W24 IO_L7N_T1L_N1_QBC_AD13N_44 (io), W25 IO_L8P_T1L_N2_AD5P_44 (io), W26 IO_L8N_T1L_N3_AD5N_44 (io), Y22 IO_T0U_N12_VRP_44 (io), Y23 IO_L5P_T0U_N8_AD14P_44 (io), Y25 IO_L9P_T1L_N4_AD12P_44 (io), Y26 IO_L9N_T1L_N5_AD12N_44 (io)
part C pins: E25 IO_L7P_T1L_N0_QBC_AD13P_45 (io), E26 IO_L7N_T1L_N1_QBC_AD13N_45 (io), F22 IO_L10P_T1U_N6_QBC_AD4P_45 (io), F23 IO_L10N_T1U_N7_QBC_AD4N_45 (io), F24 IO_T1U_N12_45 (io), F25 IO_L9N_T1L_N5_AD12N_45 (io), G20 IO_L15N_T2L_N5_AD11N_45 (io), G21 IO_L17P_T2U_N8_AD10P_45 (io), G22 IO_L17N_T2U_N9_AD10N_45 (io), G24 IO_L12N_T1U_N11_GC_45 (io), G25 IO_L9P_T1L_N4_AD12P_45 (io), G26 IO_L8N_T1L_N3_AD5N_45 (io), H19 IO_L15P_T2L_N4_AD11P_45 (io), H21 IO_L18N_T2U_N11_AD2N_45 (io), H22 IO_L13P_T2L_N0_GC_QBC_45 (io), H23 IO_L13N_T2L_N1_GC_QBC_45 (io), H24 IO_L12P_T1U_N10_GC_45 (io), H26 IO_L8P_T1L_N2_AD5P_45 (io), J19 IO_L23P_T3U_N8_45 (io), J20 IO_L23N_T3U_N9_45 (io), J21 IO_L18P_T2U_N10_AD2P_45 (io), J23 IO_L14N_T2L_N3_GC_45 (io), J24 IO_L11P_T1U_N8_GC_45 (io), J25 IO_L11N_T1U_N9_GC_45 (io), J26 IO_L4N_T0U_N7_DBC_AD7N_45 (io), K18 IO_L19N_T3L_N1_DBC_AD9N_45 (io), K20 IO_L20P_T3L_N2_AD1P_45 (io), K21 IO_L20N_T3L_N3_AD1N_45 (io), K22 IO_L16N_T2U_N7_QBC_AD3N_45 (io), K23 IO_L14P_T2L_N2_GC_45 (io), K25 IO_T0U_N12_VRP_45 (io), K26 IO_L4P_T0U_N6_DBC_AD7P_45 (io), L18 IO_L19P_T3L_N0_DBC_AD9P_45 (io), L19 IO_L21N_T3L_N5_AD8N_45 (io), L20 IO_L22N_T3U_N7_DBC_AD0N_45 (io), L22 IO_L16P_T2U_N6_QBC_AD3P_45 (io), L23 IO_T2U_N12_45 (io), L24 IO_L3N_T0L_N5_AD15N_45 (io), L25 IO_L6N_T0U_N11_AD6N_45 (io), M19 IO_L21P_T3L_N4_AD8P_45 (io), M20 IO_L22P_T3U_N6_DBC_AD0P_45 (io), M21 IO_L24N_T3U_N11_45 (io), M22 IO_L5N_T0U_N9_AD14N_45 (io), M24 IO_L3P_T0L_N4_AD15P_45 (io), M25 IO_L6P_T0U_N10_AD6P_45 (io), M26 IO_L2N_T0L_N3_45 (io), N18 VREF_45 (io), N19 IO_T3U_N12_45 (io), N21 IO_L24P_T3U_N10_45 (io), N22 IO_L5P_T0U_N8_AD14P_45 (io), N23 IO_L1P_T0L_N0_DBC_45 (io), N24 IO_L1N_T0L_N1_DBC_45 (io), N26 IO_L2P_T0L_N2_45 (io)
part D pins: A17 IO_L15P_T2L_N4_AD11P_46 (io), A18 IO_L15N_T2L_N5_AD11N_46 (io), A19 IO_L16N_T2U_N7_QBC_AD3N_46 (io), A20 IO_L8N_T1L_N3_AD5N_46 (io), A22 IO_L7P_T1L_N0_QBC_AD13P_46 (io), A23 IO_L7N_T1L_N1_QBC_AD13N_46 (io), A24 IO_L1P_T0L_N0_DBC_46 (io), A25 IO_L1N_T0L_N1_DBC_46 (io), B16 IO_L17N_T2U_N9_AD10N_46 (io), B17 IO_L18N_T2U_N11_AD2N_46 (io), B19 IO_L16P_T2U_N6_QBC_AD3P_46 (io), B20 IO_L8P_T1L_N2_AD5P_46 (io), B21 IO_L9P_T1L_N4_AD12P_46 (io), B22 IO_L9N_T1L_N5_AD12N_46 (io), B24 IO_L3P_T0L_N4_AD15P_46 (io), B25 IO_L3N_T0L_N5_AD15N_46 (io), B26 IO_L6N_T0U_N11_AD6N_46 (io), C16 IO_L17P_T2U_N8_AD10P_46 (io), C17 IO_L18P_T2U_N10_AD2P_46 (io), C18 IO_L14N_T2L_N3_GC_46 (io), C19 IO_L13N_T2L_N1_GC_QBC_46 (io), C21 IO_L10P_T1U_N6_QBC_AD4P_46 (io), C22 IO_L10N_T1U_N7_QBC_AD4N_46 (io), C23 IO_L4N_T0U_N7_DBC_AD7N_46 (io), C24 IO_L5N_T0U_N9_AD14N_46 (io), C26 IO_L6P_T0U_N10_AD6P_46 (io), D16 IO_T2U_N12_46 (io), D18 IO_L14P_T2L_N2_GC_46 (io), D19 IO_L13P_T2L_N0_GC_QBC_46 (io), D20 IO_L12P_T1U_N10_GC_46 (io), D21 IO_L12N_T1U_N11_GC_46 (io), D23 IO_L4P_T0U_N6_DBC_AD7P_46 (io), D24 IO_L5P_T0U_N8_AD14P_46 (io), D25 IO_L2P_T0L_N2_46 (io), D26 IO_L2N_T0L_N3_46 (io), E16 IO_T3U_N12_46 (io), E17 IO_L23P_T3U_N8_46 (io), E18 IO_L23N_T3U_N9_46 (io), E20 IO_L11P_T1U_N8_GC_46 (io), E21 IO_L11N_T1U_N9_GC_46 (io), E22 IO_T1U_N12_46 (io), E23 IO_T0U_N12_VRP_46 (io), F17 IO_L20N_T3L_N3_AD1N_46 (io), F18 IO_L21P_T3L_N4_AD8P_46 (io), F19 IO_L21N_T3L_N5_AD8N_46 (io), F20 IO_L19N_T3L_N1_DBC_AD9N_46 (io), G16 IO_L22N_T3U_N7_DBC_AD0N_46 (io), G17 IO_L20P_T3L_N2_AD1P_46 (io), G19 IO_L19P_T3L_N0_DBC_AD9P_46 (io), H16 IO_L22P_T3U_N6_DBC_AD0P_46 (io), H17 IO_L24P_T3U_N10_46 (io), H18 IO_L24N_T3U_N11_46 (io), J18 VREF_46 (io)
part E pins: A10 IO_L18N_T2U_N11_AD2N_66 (io), A12 IO_L6N_T0U_N11_AD6N_66 (io), A13 IO_L6P_T0U_N10_AD6P_66 (io), A14 IO_L4N_T0U_N7_DBC_AD7N_66 (io), A15 IO_L2N_T0L_N3_66 (io), B10 IO_L18P_T2U_N10_AD2P_66 (io), B11 IO_L16N_T2U_N7_QBC_AD3N_66 (io), B12 IO_L5N_T0U_N9_AD14N_66 (io), B14 IO_L4P_T0U_N6_DBC_AD7P_66 (io), B15 IO_L2P_T0L_N2_66 (io), C8 IO_L15N_T2L_N5_AD11N_66 (io), C9 IO_L15P_T2L_N4_AD11P_66 (io), C11 IO_L16P_T2U_N6_QBC_AD3P_66 (io), C12 IO_L5P_T0U_N8_AD14P_66 (io), C13 IO_L3N_T0L_N5_AD15N_66 (io), C14 IO_L1N_T0L_N1_DBC_66 (io), D8 IO_L17N_T2U_N9_AD10N_66 (io), D9 IO_T2U_N12_66 (io), D10 IO_L13N_T2L_N1_GC_QBC_66 (io), D11 IO_L14N_T2L_N3_GC_66 (io), D13 IO_L3P_T0L_N4_AD15P_66 (io), D14 IO_L1P_T0L_N0_DBC_66 (io), D15 IO_T0U_N12_VRP_66 (io), E8 IO_L17P_T2U_N8_AD10P_66 (io), E10 IO_L13P_T2L_N0_GC_QBC_66 (io), E11 IO_L14P_T2L_N2_GC_66 (io), E12 IO_L12N_T1U_N11_GC_66 (io), E13 IO_L12P_T1U_N10_GC_66 (io), E15 IO_T1U_N12_66 (io), F8 IO_L20N_T3L_N3_AD1N_66 (io), F9 IO_L20P_T3L_N2_AD1P_66 (io), F10 IO_L22N_T3U_N7_DBC_AD0N_66 (io), F12 IO_L11N_T1U_N9_GC_66 (io), F13 IO_L10N_T1U_N7_QBC_AD4N_66 (io), F14 IO_L10P_T1U_N6_QBC_AD4P_66 (io), F15 IO_L8N_T1L_N3_AD5N_66 (io), G9 IO_L24N_T3U_N11_66 (io), G10 IO_L24P_T3U_N10_66 (io), G11 IO_L22P_T3U_N6_DBC_AD0P_66 (io), G12 IO_L11P_T1U_N8_GC_66 (io), G14 IO_L7N_T1L_N1_QBC_AD13N_66 (io), G15 IO_L8P_T1L_N2_AD5P_66 (io), H8 IO_L19N_T3L_N1_DBC_AD9N_66 (io), H9 IO_L19P_T3L_N0_DBC_AD9P_66 (io), H11 IO_L23N_T3U_N9_66 (io), H12 IO_T3U_N12_66 (io), H13 IO_L9N_T1L_N5_AD12N_66 (io), H14 IO_L7P_T1L_N0_QBC_AD13P_66 (io), J9 IO_L21N_T3L_N5_AD8N_66 (io), J10 IO_L21P_T3L_N4_AD8P_66 (io), J11 IO_L23P_T3U_N8_66 (io), J13 IO_L9P_T1L_N4_AD12P_66 (io), J14 VREF_66 (io)
part F pins: AA8 IO_L21N_T3L_N5_AD8N_64 (io), AA9 IO_L19N_T3L_N1_DBC_AD9N_64 (io), AA10 IO_L19P_T3L_N0_DBC_AD9P_64 (io), AA12 IO_L11N_T1U_N9_GC_64 (io), AA13 IO_L11P_T1U_N8_GC_64 (io), AA14 IO_L9P_T1L_N4_AD12P_64 (io), AA15 IO_L7P_T1L_N0_QBC_AD13P_64 (io), AB9 IO_L18N_T2U_N11_AD2N_64 (io), AB10 IO_L18P_T2U_N10_AD2P_64 (io), AB11 IO_L12N_T1U_N11_GC_64 (io), AB12 IO_L12P_T1U_N10_GC_64 (io), AB14 IO_L9N_T1L_N5_AD12N_64 (io), AB15 IO_L7N_T1L_N1_QBC_AD13N_64 (io), AC8 IO_L17P_T2U_N8_AD10P_64 (io), AC9 IO_L15P_T2L_N4_AD11P_64 (io), AC11 IO_L13N_T2L_N1_GC_QBC_64 (io), AC12 IO_L13P_T2L_N0_GC_QBC_64 (io), AC13 IO_L5N_T0U_N9_AD14N_64 (io), AC14 IO_L5P_T0U_N8_AD14P_64 (io), AD8 IO_L17N_T2U_N9_AD10N_64 (io), AD9 IO_L15N_T2L_N5_AD11N_64 (io), AD10 IO_T2U_N12_64 (io), AD11 IO_L14P_T2L_N2_GC_64 (io), AD13 IO_L6N_T0U_N11_AD6N_64 (io), AD14 IO_L6P_T0U_N10_AD6P_64 (io), AD15 IO_L3P_T0L_N4_AD15P_64 (io), AE10 IO_L16P_T2U_N6_QBC_AD3P_64 (io), AE11 IO_L14N_T2L_N3_GC_64 (io), AE12 IO_L4P_T0U_N6_DBC_AD7P_64 (io), AE13 IO_T0U_N12_64 (io), AE15 IO_L3N_T0L_N5_AD15N_64 (io), AE16 IO_L1P_T0L_N0_DBC_64 (io), AF10 IO_L16N_T2U_N7_QBC_AD3N_64 (io), AF12 IO_L4N_T0U_N7_DBC_AD7N_64 (io), AF13 IO_L2N_T0L_N3_64 (io), AF14 IO_L2P_T0L_N2_64 (io), AF15 IO_L1N_T0L_N1_DBC_64 (io), V11 IO_L22N_T3U_N7_DBC_AD0N_64 (io), V12 IO_L22P_T3U_N6_DBC_AD0P_64 (io), V14 VREF_64 (io), W8 IO_L23N_T3U_N9_64 (io), W9 IO_L23P_T3U_N8_64 (io), W10 IO_L24N_T3U_N11_64 (io), W11 IO_L24P_T3U_N10_64 (io), W13 IO_L10N_T1U_N7_QBC_AD4N_64 (io), W14 IO_L10P_T1U_N6_QBC_AD4P_64 (io), W15 IO_L8P_T1L_N2_AD5P_64 (io), Y8 IO_L21P_T3L_N4_AD8P_64 (io), Y10 IO_L20N_T3L_N3_AD1N_64 (io), Y11 IO_L20P_T3L_N2_AD1P_64 (io), Y12 IO_T3U_N12_64 (io), Y13 IO_T1U_N12_64 (io), Y15 IO_L8N_T1L_N3_AD5N_64 (io)
part G pins: AA17 IO_T1U_N12_PERSTN1_65 (io), AA18 IO_T2U_N12_CSI_ADV_B_65 (io), AA19 IO_L13P_T2L_N0_GC_QBC_A06_D22_65 (io), AA20 IO_L13N_T2L_N1_GC_QBC_A07_D23_65 (io), AB16 IO_T0U_N12_A28_65 (io), AB17 IO_L2P_T0L_N2_FOE_B_65 (io), AB19 IO_L14P_T2L_N2_GC_A04_D20_65 (io), AB20 IO_L14N_T2L_N3_GC_A05_D21_65 (io), AB21 IO_L17P_T2U_N8_AD10P_D14_65 (io), AC16 IO_L1P_T0L_N0_DBC_RS0_65 (io), AC17 IO_L2N_T0L_N3_FWE_FCS2_B_65 (io), AC18 IO_L5P_T0U_N8_AD14P_A22_65 (io), AC19 IO_L15P_T2L_N4_AD11P_A02_D18_65 (io), AC21 IO_L17N_T2U_N9_AD10N_D15_65 (io), AC22 IO_T3U_N12_PERSTN0_65 (io), AD16 IO_L1N_T0L_N1_DBC_RS1_65 (io), AD18 IO_L5N_T0U_N9_AD14N_A23_65 (io), AD19 IO_L15N_T2L_N5_AD11N_A03_D19_65 (io), AD20 IO_L18P_T2U_N10_AD2P_D12_65 (io), AD21 IO_L18N_T2U_N11_AD2N_D13_65 (io), AD23 IO_L23P_T3U_N8_I2C_SCLK_65 (io), AD24 IO_L24P_T3U_N10_EMCCLK_65 (io), AD25 IO_L24N_T3U_N11_DOUT_CSO_B_65 (io), AD26 IO_L22P_T3U_N6_DBC_AD0P_D04_65 (io), AE17 IO_L3P_T0L_N4_AD15P_A26_65 (io), AE18 IO_L3N_T0L_N5_AD15N_A27_65 (io), AE20 IO_L16P_T2U_N6_QBC_AD3P_A00_D16_65 (io), AE21 IO_L16N_T2U_N7_QBC_AD3N_A01_D17_65 (io), AE22 IO_L19P_T3L_N0_DBC_AD9P_D10_65 (io), AE23 IO_L23N_T3U_N9_I2C_SDA_65 (io), AE25 IO_L20P_T3L_N2_AD1P_D08_65 (io), AE26 IO_L22N_T3U_N7_DBC_AD0N_D05_65 (io), AF17 IO_L6P_T0U_N10_AD6P_A20_65 (io), AF18 IO_L6N_T0U_N11_AD6N_A21_65 (io), AF19 IO_L4P_T0U_N6_DBC_AD7P_A24_65 (io), AF20 IO_L4N_T0U_N7_DBC_AD7N_A25_65 (io), AF22 IO_L19N_T3L_N1_DBC_AD9N_D11_65 (io), AF23 IO_L21P_T3L_N4_AD8P_D06_65 (io), AF24 IO_L21N_T3L_N5_AD8N_D07_65 (io), AF25 IO_L20N_T3L_N3_AD1N_D09_65 (io), V17 VREF_65 (io), V18 IO_L10P_T1U_N6_QBC_AD4P_A12_D28_65 (io), V19 IO_L10N_T1U_N7_QBC_AD4N_A13_D29_65 (io), W16 IO_L7P_T1L_N0_QBC_AD13P_A18_65 (io), W18 IO_L9P_T1L_N4_AD12P_A14_D30_65 (io), W19 IO_L9N_T1L_N5_AD12N_A15_D31_65 (io), W20 IO_L12P_T1U_N10_GC_A08_D24_65 (io), W21 IO_L8P_T1L_N2_AD5P_A16_65 (io), Y16 IO_L7N_T1L_N1_QBC_AD13N_A19_65 (io), Y17 IO_L11P_T1U_N8_GC_A10_D26_65 (io), Y18 IO_L11N_T1U_N9_GC_A11_D27_65 (io), Y20 IO_L12N_T1U_N11_GC_A09_D25_65 (io), Y21 IO_L8N_T1L_N3_AD5N_A17_65 (io)
part H pins: AB1 MGTHRXN3_224 (in), AB2 MGTHRXP3_224 (in), AB5 MGTHTXN3_224 (out), AB6 MGTHTXP3_224 (out), AC3 MGTHTXN2_224 (out), AC4 MGTHTXP2_224 (out), AD1 MGTHRXN2_224 (in), AD2 MGTHRXP2_224 (in), AD5 MGTHTXN1_224 (out), AD6 MGTHTXP1_224 (out), AE3 MGTHRXN1_224 (in), AE4 MGTHRXP1_224 (in), AF1 MGTHRXN0_224 (in), AF2 MGTHRXP0_224 (in), AF5 MGTHTXN0_224 (out), AF6 MGTHTXP0_224 (out), V5 MGTREFCLK1N_224 (in), V6 MGTREFCLK1P_224 (in), Y5 MGTREFCLK0N_224 (in), Y6 MGTREFCLK0P_224 (in)
part I pins: AA3 MGTHTXN0_225 (out), AA4 MGTHTXP0_225 (out), AF7 MGTRREF_R, AF8 MGTAVTTRCAL_R, P1 MGTHRXN3_225 (in), P2 MGTHRXP3_225 (in), P5 MGTREFCLK1N_225 (in), P6 MGTREFCLK1P_225 (in), R3 MGTHTXN3_225 (out), R4 MGTHTXP3_225 (out), T1 MGTHRXN2_225 (in), T2 MGTHRXP2_225 (in), T5 MGTREFCLK0N_225 (in), T6 MGTREFCLK0P_225 (in), U3 MGTHTXN2_225 (out), U4 MGTHTXP2_225 (out), V1 MGTHRXN1_225 (in), V2 MGTHRXP1_225 (in), W3 MGTHTXN1_225 (out), W4 MGTHTXP1_225 (out), Y1 MGTHRXN0_225 (in), Y2 MGTHRXP0_225 (in)
part J pins: F1 MGTHRXN3_226 (in), F2 MGTHRXP3_226 (in), G3 MGTHTXN3_226 (out), G4 MGTHTXP3_226 (out), H1 MGTHRXN2_226 (in), H2 MGTHRXP2_226 (in), J3 MGTHTXN2_226 (out), J4 MGTHTXP2_226 (out), K1 MGTHRXN1_226 (in), K2 MGTHRXP1_226 (in), K5 MGTREFCLK1N_226 (in), K6 MGTREFCLK1P_226 (in), L3 MGTHTXN1_226 (out), L4 MGTHTXP1_226 (out), M1 MGTHRXN0_226 (in), M2 MGTHRXP0_226 (in), M5 MGTREFCLK0N_226 (in), M6 MGTREFCLK0P_226 (in), N3 MGTHTXN0_226 (out), N4 MGTHTXP0_226 (out)
part K pins: A3 MGTHRXN3_227 (in), A4 MGTHRXP3_227 (in), A7 MGTHTXN3_227 (out), A8 MGTHTXP3_227 (out), B1 MGTHRXN2_227 (in), B2 MGTHRXP2_227 (in), B5 MGTHTXN2_227 (out), B6 MGTHTXP2_227 (out), C3 MGTHRXN1_227 (in), C4 MGTHRXP1_227 (in), D1 MGTHRXN0_227 (in), D2 MGTHRXP0_227 (in), D5 MGTHTXN1_227 (out), D6 MGTHTXP1_227 (out), E3 MGTHTXN0_227 (out), E4 MGTHTXP0_227 (out), F5 MGTREFCLK1N_227 (in), F6 MGTREFCLK1P_227 (in), H5 MGTREFCLK0N_227 (in), H6 MGTREFCLK0P_227 (in)
part L pins: AA6 MGTAVCC (power), AC2 MGTAVTT (power), AC6 MGTAVCC (power), AD3 MGTAVTT (power), AE6 MGTAVCC (power), C2 MGTAVTT (power), C6 MGTAVCC (power), D3 MGTAVTT (power), E6 MGTAVCC (power), G2 MGTAVTT (power), G6 MGTAVCC (power), H3 MGTAVTT (power), J6 MGTVCCAUX (power), L2 MGTAVTT (power), L6 MGTAVCC (power), M3 MGTAVTT (power), N6 MGTAVCC (power), R2 MGTAVTT (power), R6 MGTAVCC (power), T3 MGTAVTT (power), U6 MGTAVCC (power), W2 MGTAVTT (power), W6 MGTVCCAUX (power), Y3 MGTAVTT (power)
part M pins: A16 VCCO_46 (power), A26 VCCO_46 (power), AA16 VCCO_65 (power), AA26 VCCO_44 (power), AB13 VCCO_64 (power), AB23 VCCO_44 (power), AC10 VCCO_64 (power), AC20 VCCO_65 (power), AD17 VCCO_65 (power), AE14 VCCO_64 (power), AE24 VCCO_65 (power), AF11 VCCO_64 (power), AF21 VCCO_65 (power), B13 VCCO_66 (power), B23 VCCO_46 (power), C10 VCCO_66 (power), C20 VCCO_46 (power), D17 VCCO_46 (power), E14 VCCO_66 (power), E24 VCCO_45 (power), F11 VCCO_66 (power), F21 VCCO_46 (power), G8 VCCO_66 (power), G18 VCCO_46 (power), H15 VCCO_66 (power), H25 VCCO_45 (power), J12 VCCO_66 (power), J22 VCCO_45 (power), K19 VCCO_45 (power), L26 VCCO_45 (power), M23 VCCO_45 (power), N20 VCCO_45 (power), R24 VCCO_44 (power), T9 VCCO_0 (power), T21 VCCO_44 (power), U18 VCCO_44 (power), V9 VCCO_0 (power), V25 VCCO_44 (power), W12 VCCO_64 (power), W22 VCCO_44 (power), Y9 VCCO_64 (power), Y19 VCCO_65 (power)
part N pins: J16 VCCAUX_IO (power), K9 VCCINT (power), K11 VCCINT (power), K13 VCCINT (power), K15 VCCBRAM (power), K17 VCCAUX_IO (power), L8 VCCINT (power), L10 VCCINT (power), L12 VCCINT (power), L14 VCCINT (power), L16 VCCAUX_IO (power), M9 VCCINT (power), M11 VCCINT (power), M13 VCCINT (power), M15 VCCBRAM (power), M17 VCCAUX_IO (power), N8 VCCAUX (power), N10 VCCINT (power), N14 VCCINT (power), N16 VCCAUX_IO (power), P13 VCCINT (power), P15 VCCINT (power), P17 VCCAUX_IO (power), R8 VCCAUX (power), R10 VCCINT (power), R14 VCCINT (power), R16 VCCINT_IO (power), T13 VCCINT (power), T15 VCCINT (power), T17 VCCAUX_IO (power), U8 VCCAUX (power), U10 VCCINT (power), U12 VCCINT (power), U14 VCCINT (power), U16 VCCINT_IO (power), V13 VCCINT (power), V15 VCCINT (power)
part O pins: A1 GND (power), A2 GND (power), A5 GND (power), A6 GND (power), A9 GND (power), A11 GND (power), A21 GND (power), AA1 GND (power), AA2 GND (power), AA5 GND (power), AA11 GND (power), AA21 GND (power), AB3 GND (power), AB4 GND (power), AB7 GND (power), AB8 GND (power), AB18 GND (power), AC1 GND (power), AC5 GND (power), AC7 GND (power), AC15 GND (power), AC25 GND (power), AD4 GND (power), AD7 GND (power), AD12 GND (power), AD22 GND (power), AE1 GND (power), AE2 GND (power), AE5 GND (power), AE7 GND (power), AE8 GND (power), AE9 GND (power), AE19 GND (power), AF3 GND (power), AF4 GND (power), AF9 GND (power), AF16 GND (power), AF26 GND (power), B3 GND (power), B4 GND (power), B7 GND (power), B8 GND (power), B9 GND (power), B18 GND (power), C1 GND (power), C5 GND (power), C7 GND (power), C15 GND (power), C25 GND (power), D4 GND (power), D7 GND (power), D12 GND (power), D22 GND (power), E1 GND (power), E2 GND (power), E5 GND (power), E7 GND (power), E9 GND (power), E19 GND (power), F3 GND (power), F4 GND (power), F16 GND (power), F26 GND (power), G1 GND (power), G5 GND (power), G13 GND (power), G23 GND (power), H4 GND (power), H10 GND (power), H20 GND (power), J1 GND (power), J2 GND (power), J5 GND (power), J7 GND (power), J15 GND (power), J17 GND (power), K3 GND (power), K4 GND (power), K8 GND (power), K10 GND (power), K12 GND (power), K14 GND (power), K16 GND (power), K24 GND (power), L1 GND (power), L5 GND (power), L11 GND (power), L13 GND (power), L15 GND (power), L17 GND (power), L21 GND (power), M4 GND (power), M8 GND (power), M10 GND (power), M12 GND (power), M14 GND (power), M16 GND (power), M18 GND (power), N1 GND (power), N2 GND (power), N5 GND (power), N13 GND (power), N15 GND (power), N17 GND (power), N25 GND (power), P3 GND (power), P4 GND (power), P8 GND (power), P10 GND (power), P14 GND (power), P16 GND (power), P22 GND (power), R1 GND (power), R5 GND (power), R13 GND (power), R15 GND (power), R17 GND (power), R19 GND (power), T4 GND (power), T8 GND (power), T10 GND (power), T14 GND (power), T16 GND (power), T26 GND (power), U1 GND (power), U2 GND (power), U5 GND (power), U11 GND (power), U13 GND (power), U15 GND (power), U17 GND (power), U23 GND (power), V3 GND (power), V4 GND (power), V8 GND (power), V10 GND (power), V16 GND (power), V20 GND (power), W1 GND (power), W5 GND (power), W7 GND (power), W17 GND (power), Y4 GND (power), Y14 GND (power), Y24 GND (power)
part A text: Xilinx Kintex Ultrascale XCKU040-1FBVA676; System
part B text: Xilinx Kintex Ultrascale XCKU040-1FBVA676; BANK 44
part C text: Xilinx Kintex Ultrascale XCKU040-1FBVA676; BANK 45
part D text: Xilinx Kintex Ultrascale XCKU040-1FBVA676; BANK 46
part E text: Xilinx Kintex Ultrascale XCKU040-1FBVA676; BANK 66
part F text: Xilinx Kintex Ultrascale XCKU040-1FBVA676; BANK 64
part G text: Xilinx Kintex Ultrascale XCKU040-1FBVA676; BANK 65
part H text: Xilinx Kintex Ultrascale XCKU040-1FBVA676; BANK 224
part I text: Xilinx Kintex Ultrascale XCKU040-1FBVA676; BANK 225
part J text: Xilinx Kintex Ultrascale XCKU040-1FBVA676; BANK 226
part K text: Xilinx Kintex Ultrascale XCKU040-1FBVA676; BANK 227
part L text: Xilinx Kintex Ultrascale XCKU040-1FBVA676; MGT Power
part M text: Xilinx Kintex Ultrascale XCKU040-1FBVA676; BANK Power
part N text: Xilinx Kintex Ultrascale XCKU040-1FBVA676; Power
part O text: Xilinx Kintex Ultrascale XCKU040-1FBVA676

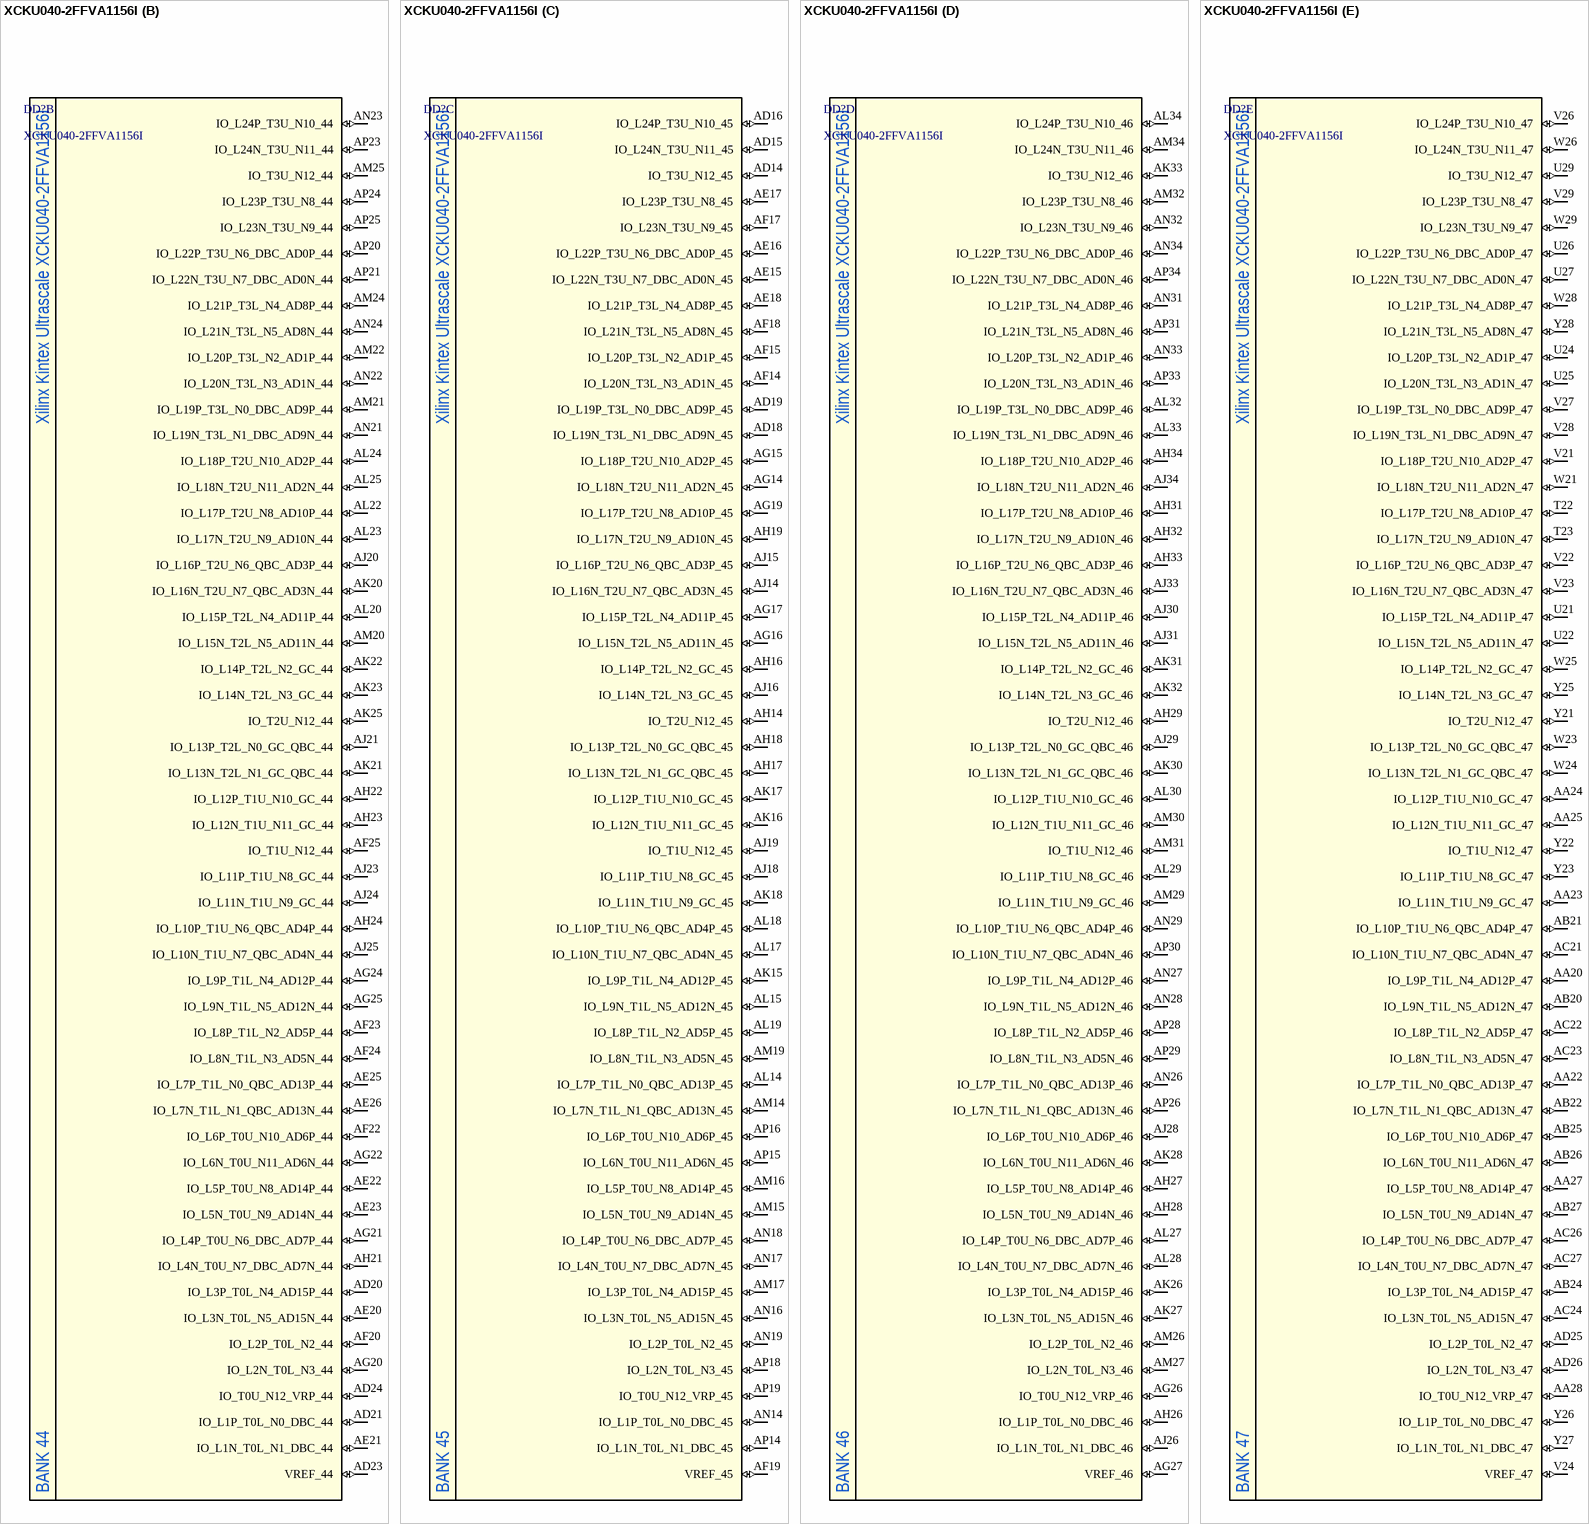
[diagram p51: symbol XCKU040-2FFVA1156I]

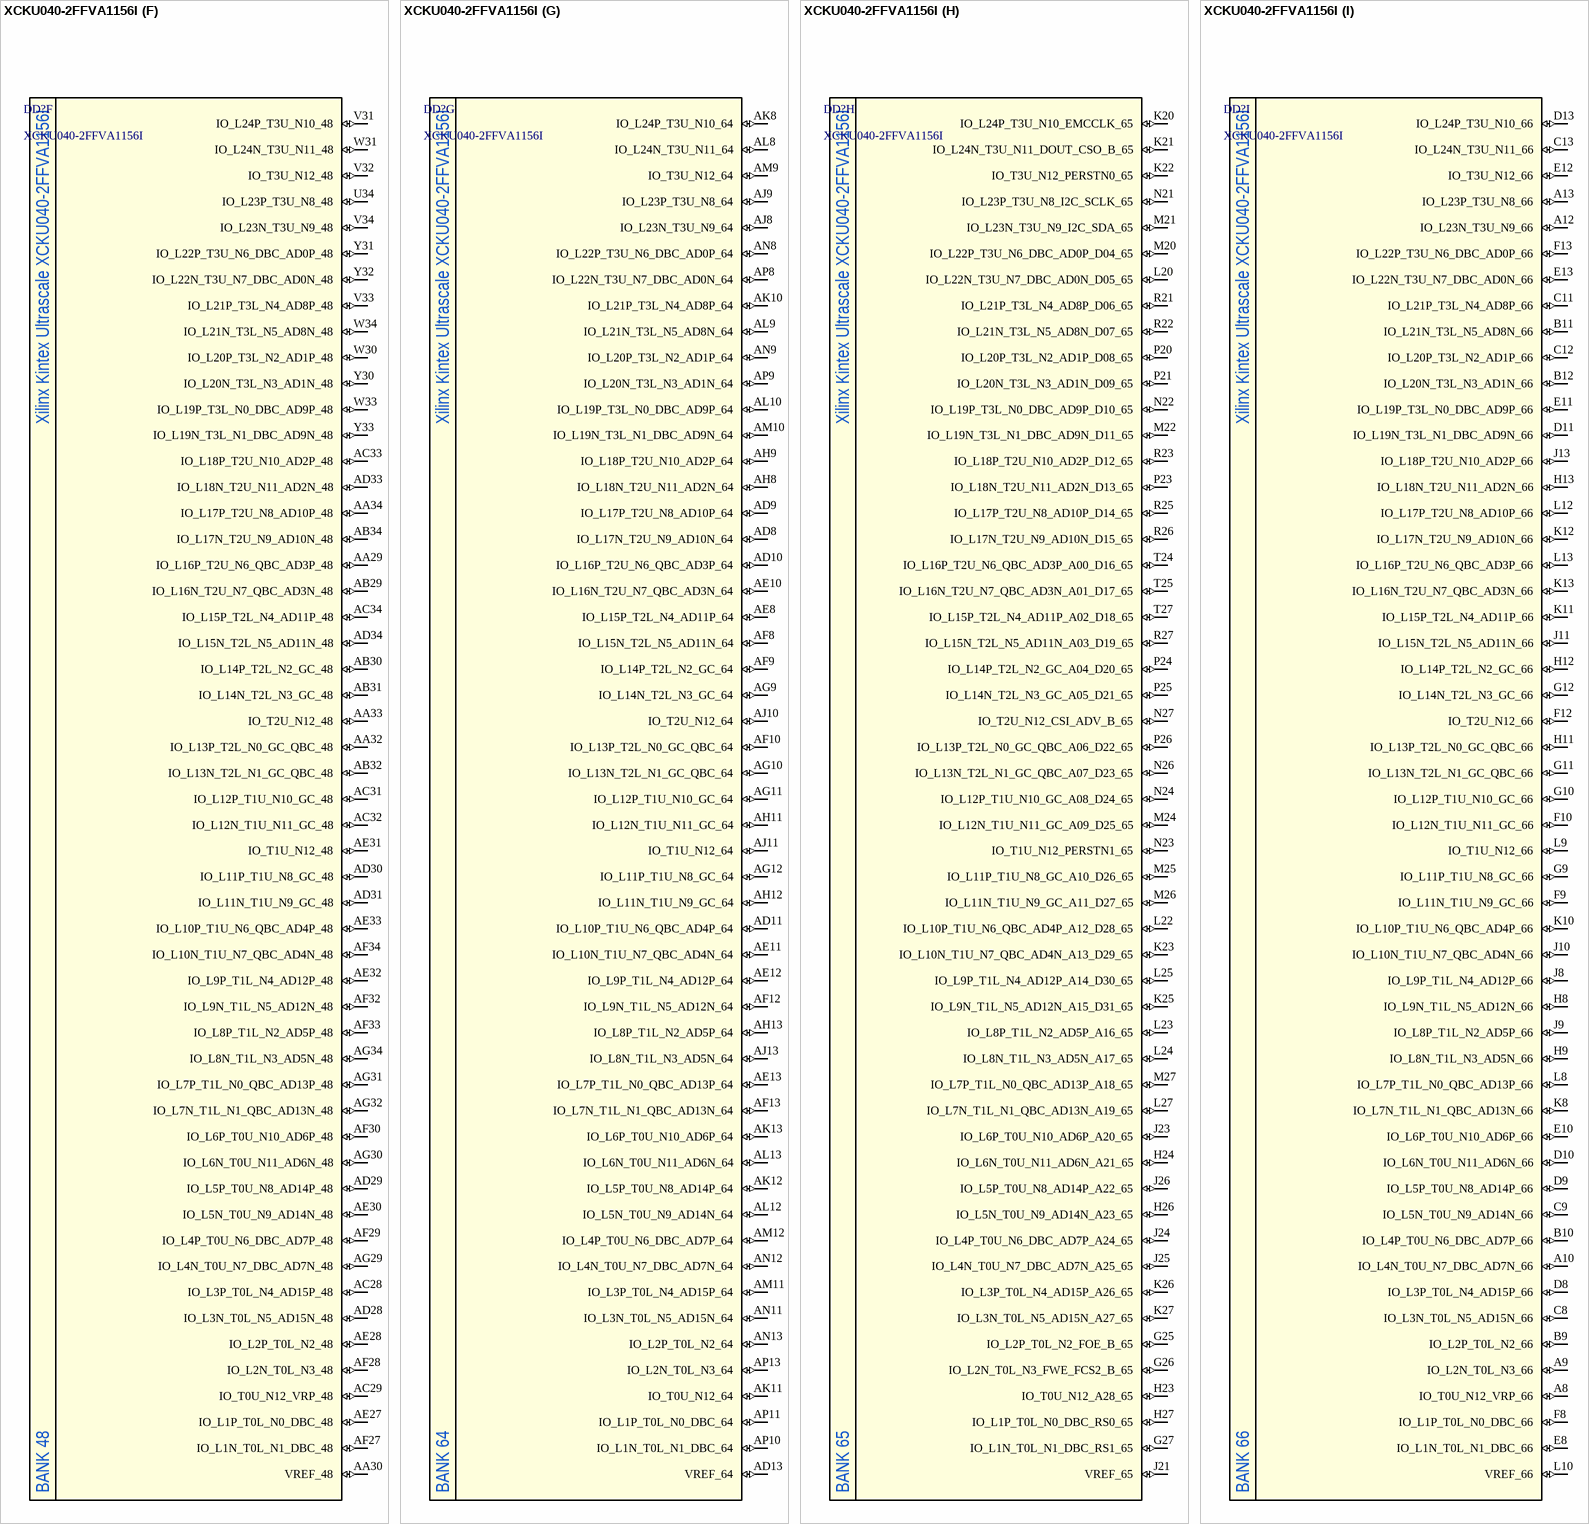
[diagram p52: symbol XCKU040-2FFVA1156I]

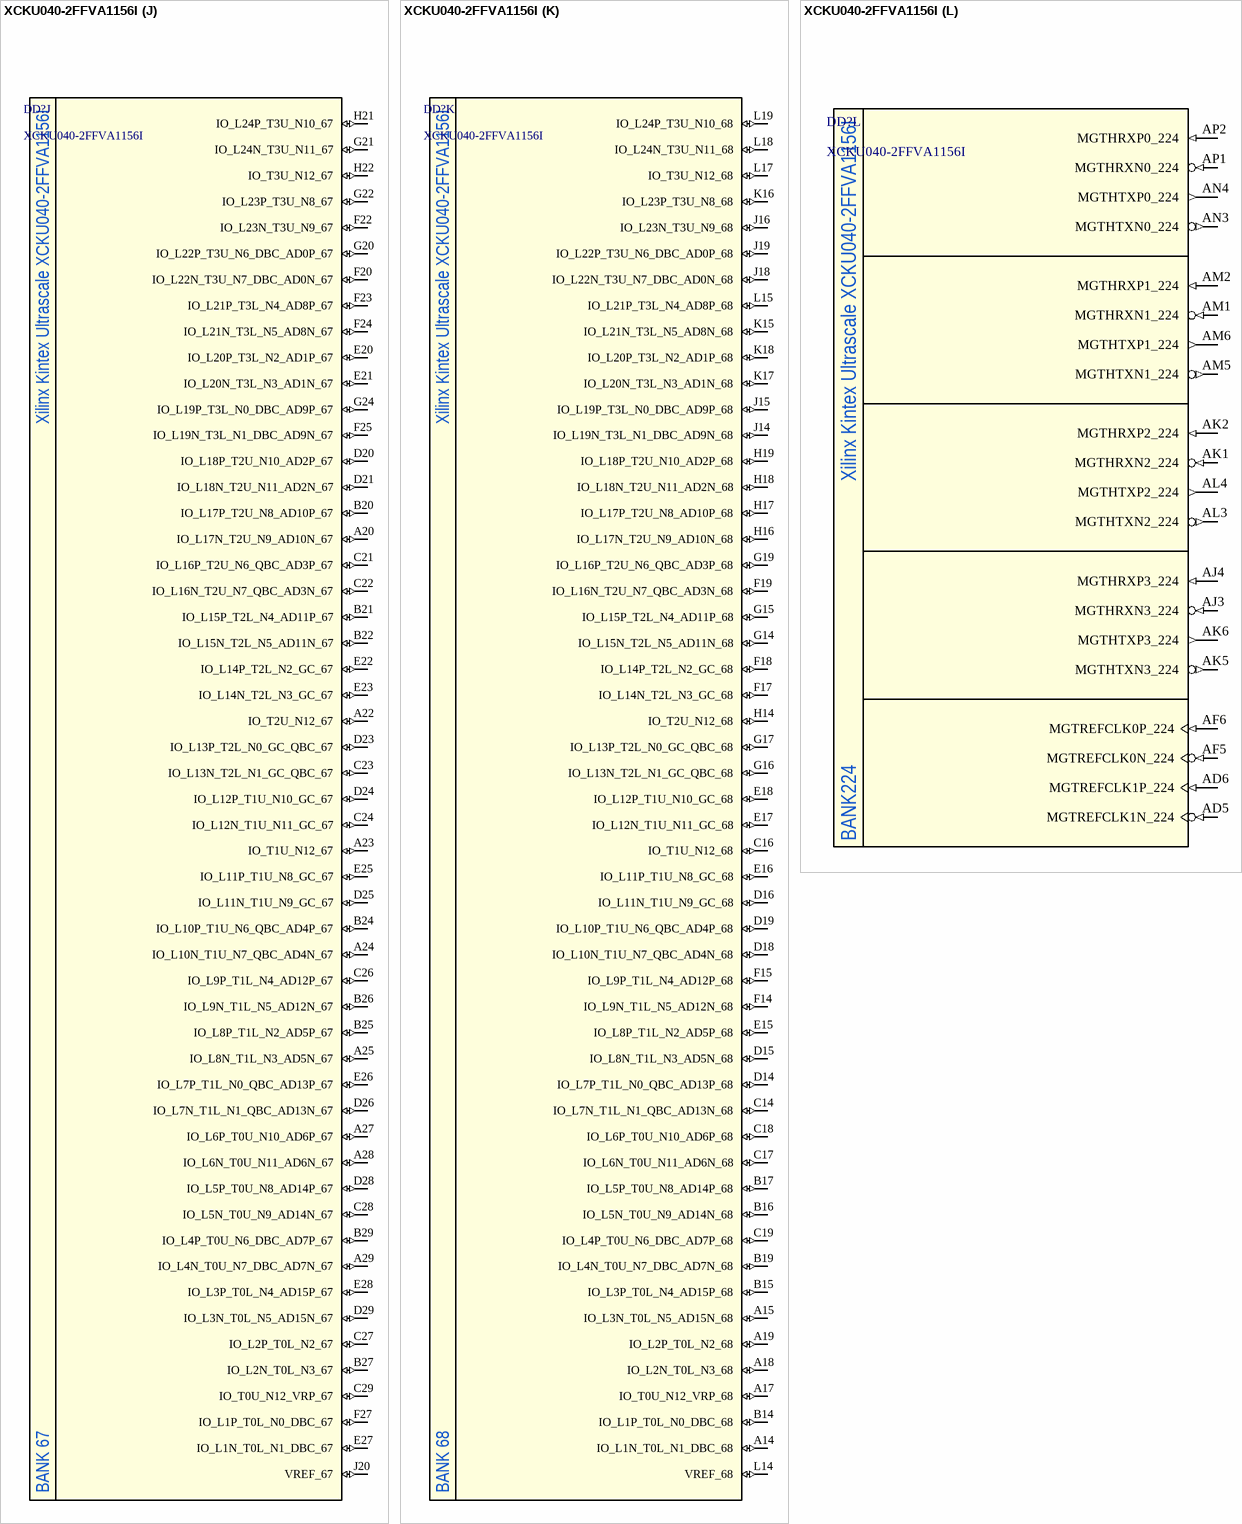
[diagram p53: symbol XCKU040-2FFVA1156I]

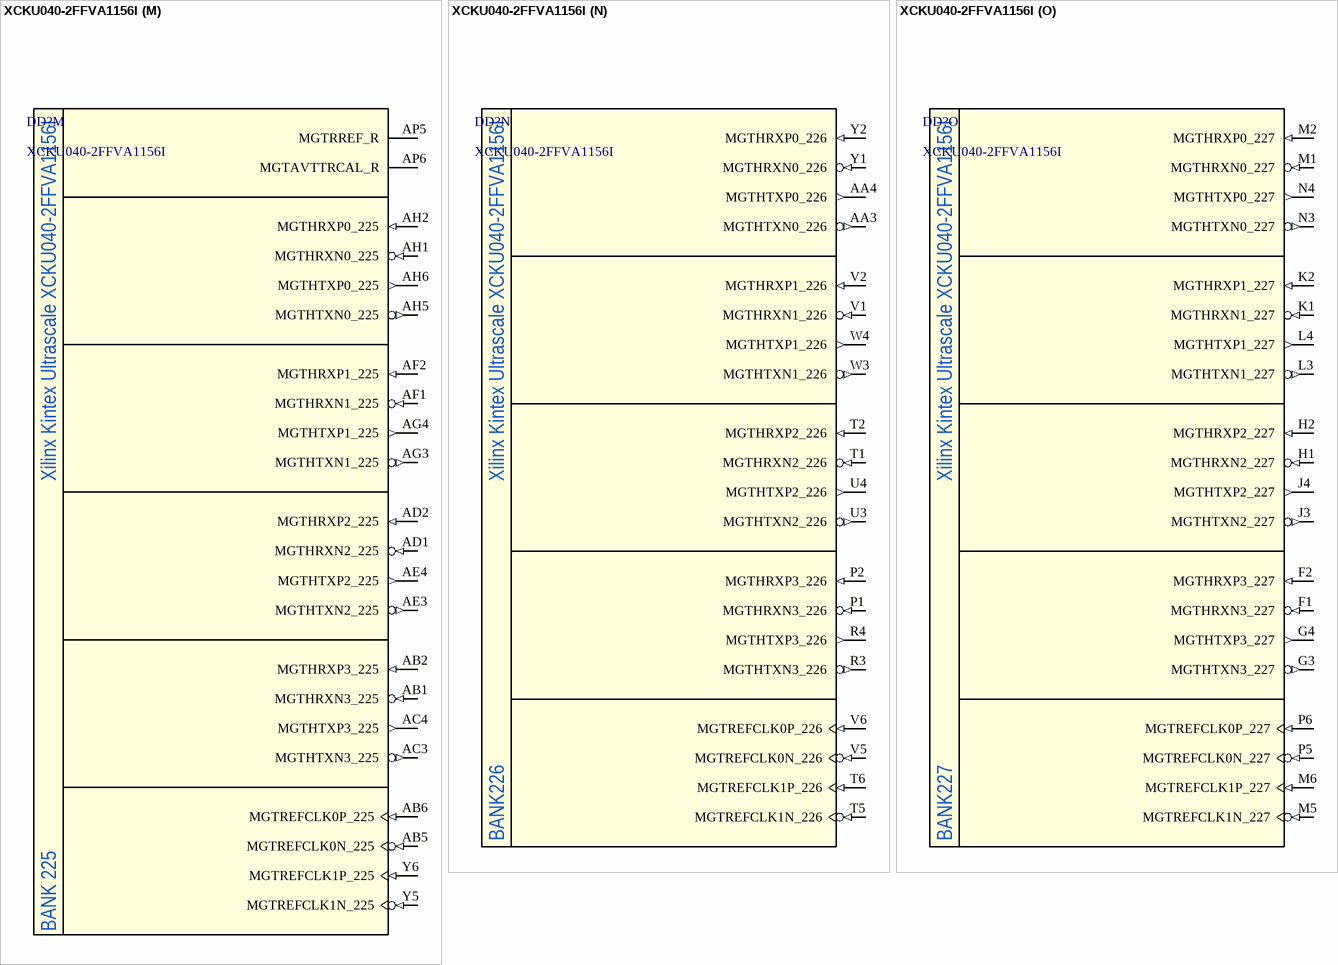
[diagram p54: symbol XCKU040-2FFVA1156I]

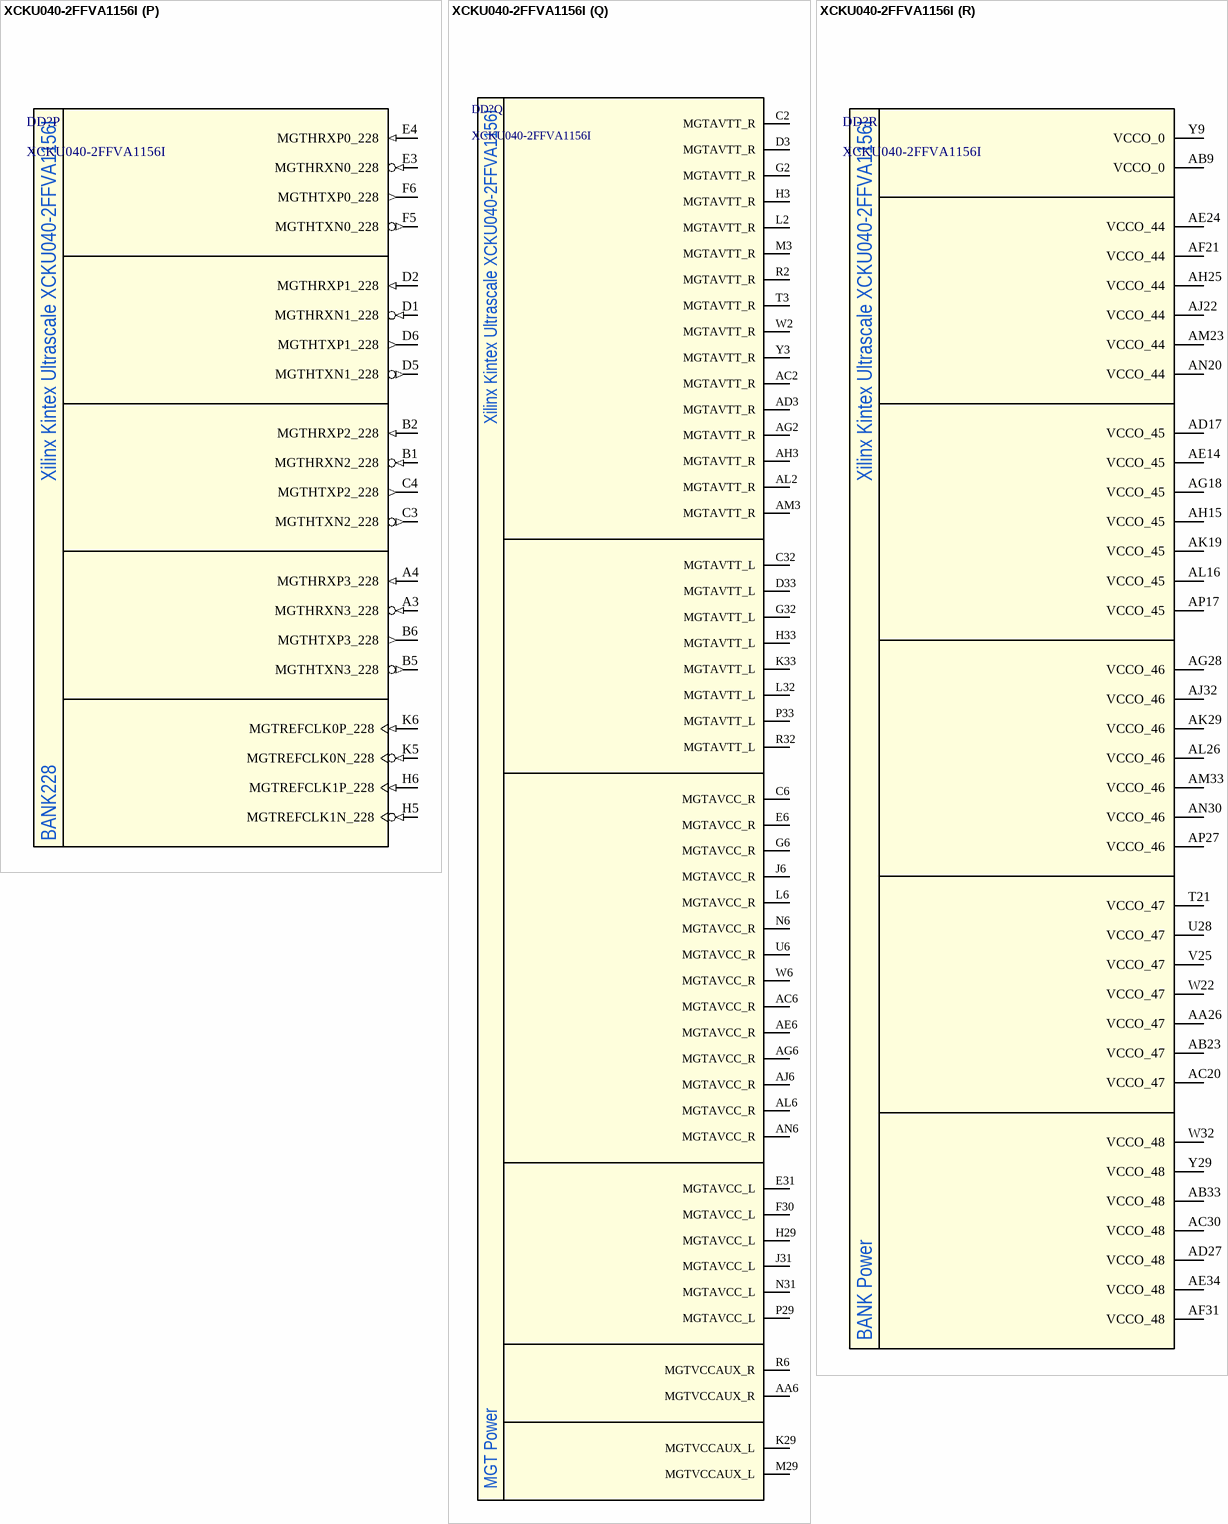
[diagram p55: symbol XCKU040-2FFVA1156I]

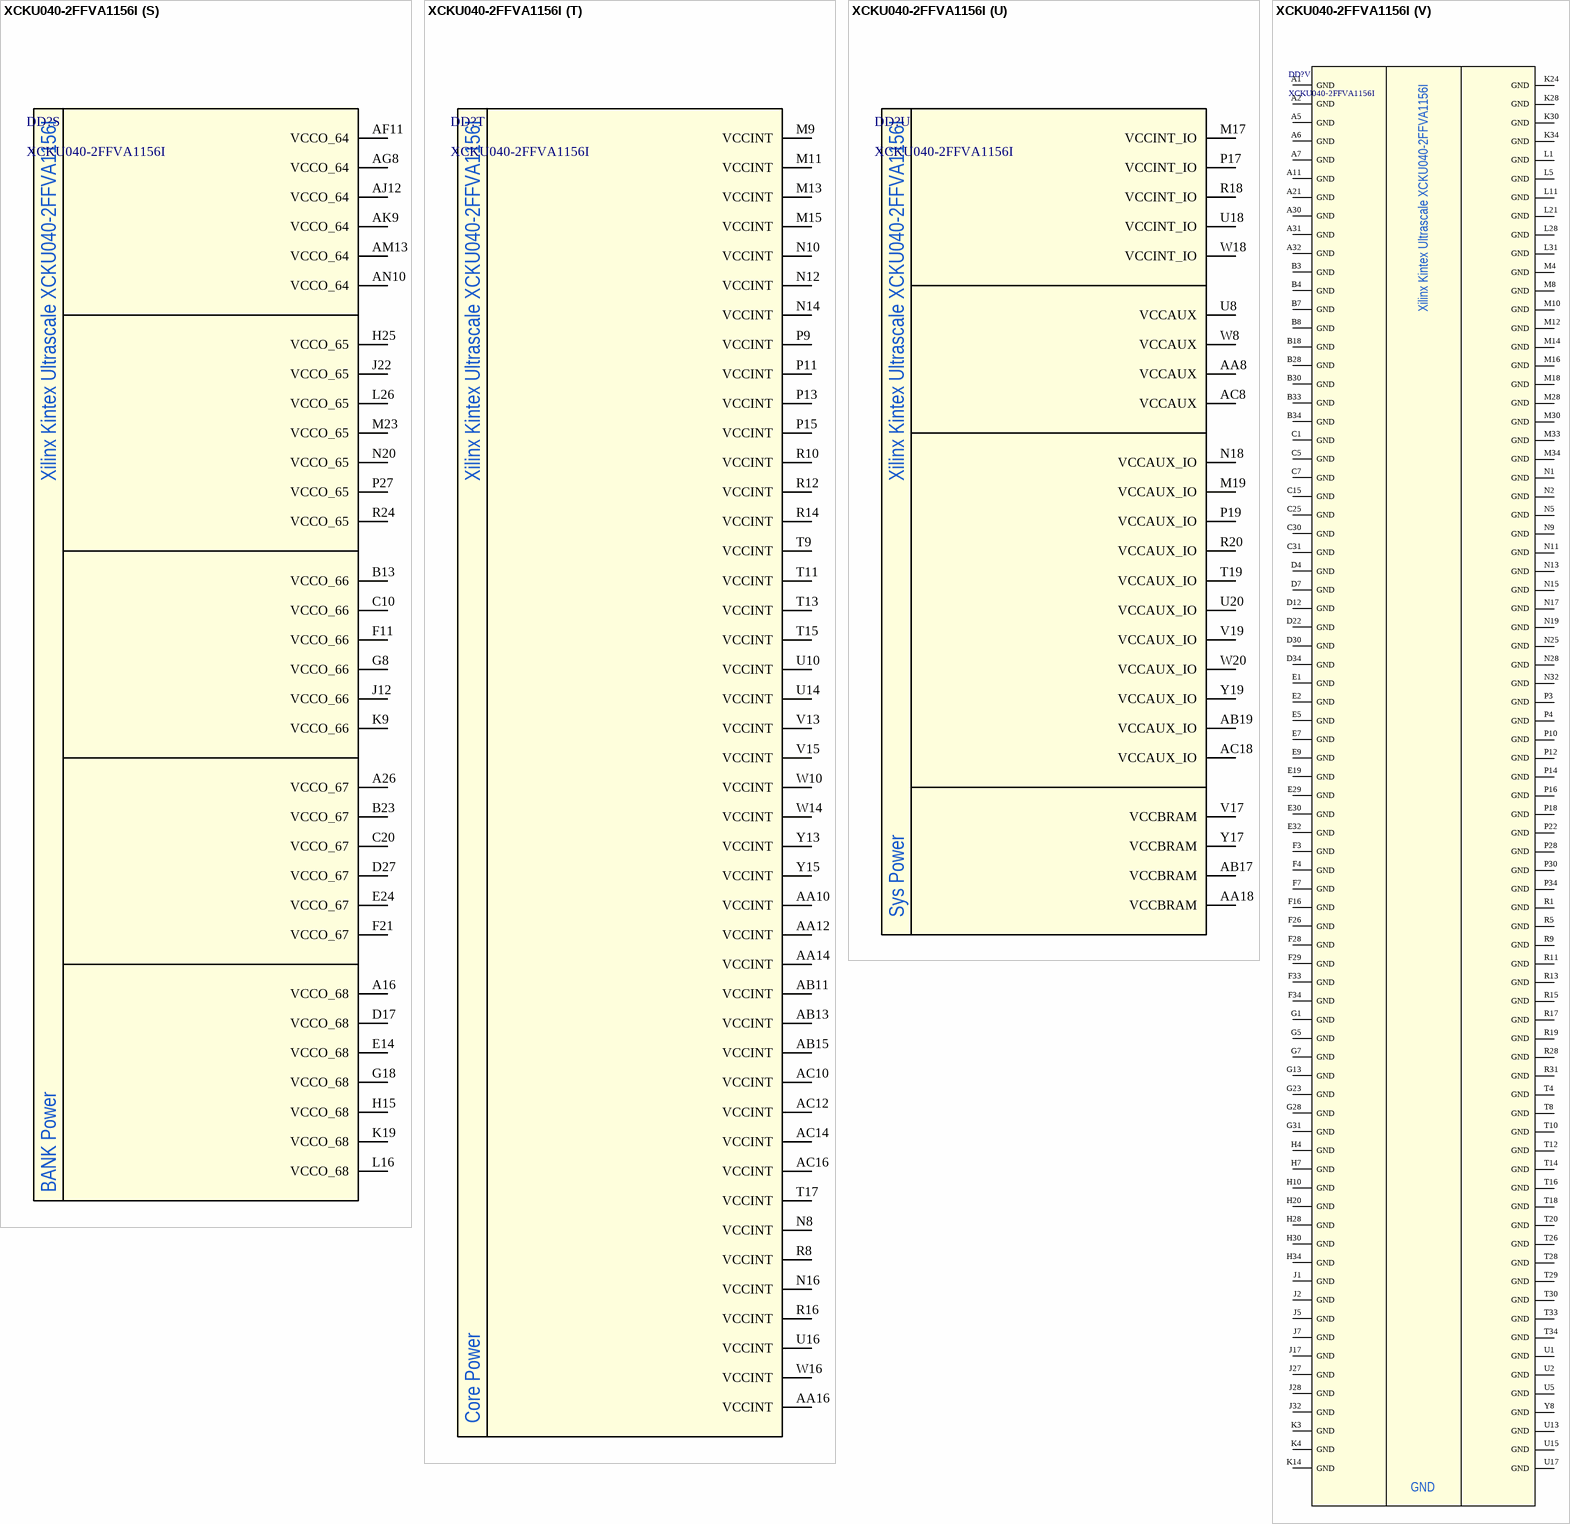
[diagram p56: symbol XCKU040-2FFVA1156I]

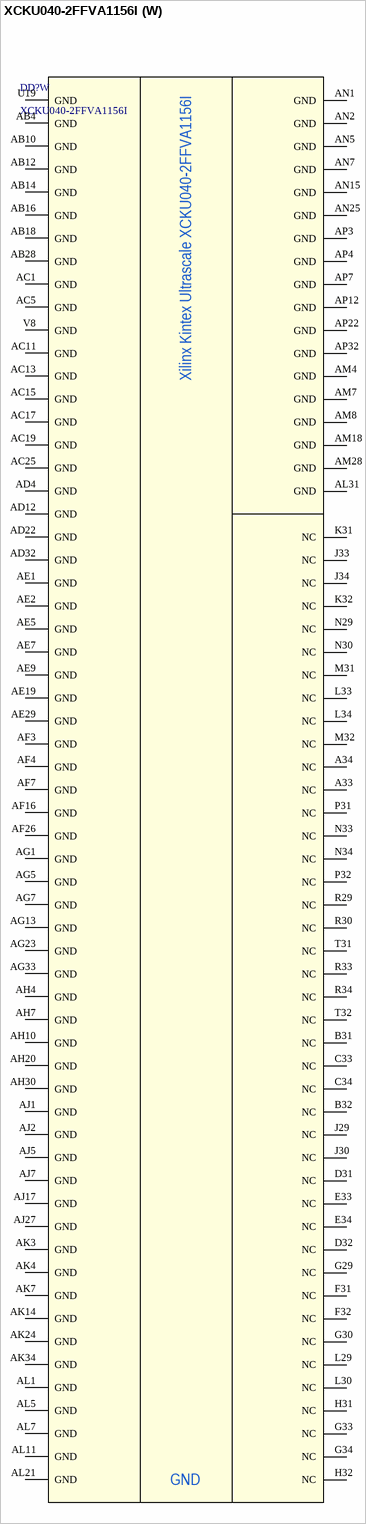
[diagram p57: symbol XCKU040-2FFVA1156I]